# Altium integrated library Altera APEX 20KC.IntLib: 42 symbols (part 8 of 13)
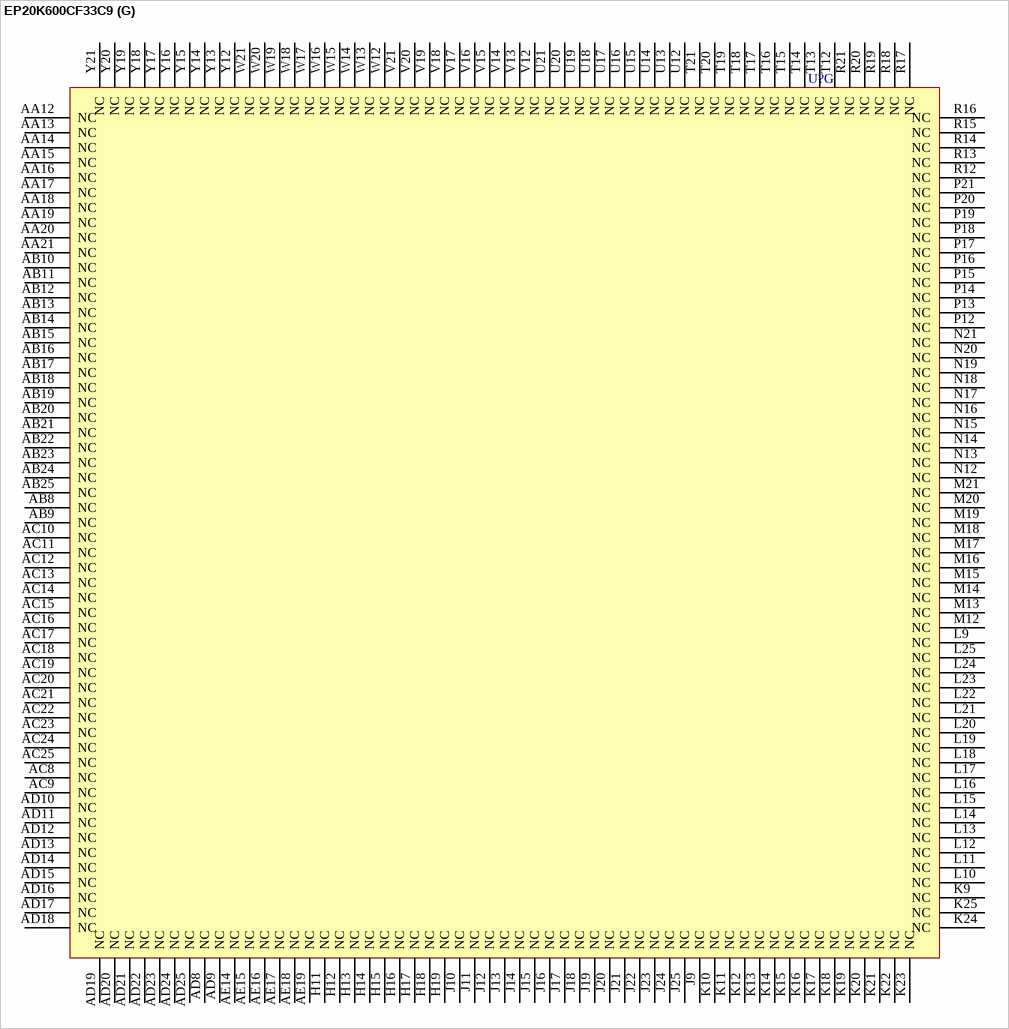
[diagram p98: symbol EP20K600CF33C9]

## EP20K600CF33C9
designator U?
APEX 20KC Family, 1.8V FPGA, 588 I/O Pins, 4 x PLLs, Commercial Grade, Speed Grade 9; Note: Pin compatible with Apex 20KE equivalent; Published: 23-Sep-2002; LatestRevisionDate: 13-Apr-2006; LatestRevisionNote: IPC-7351 Footprint Added.; DatasheetVersion: ver2.2, Feb-2004; PackageVersion: ver15.1, May-2008; PackageReference: FBGA1020; Publisher: Altium Limited; PackageDescription: 1020-Ball FineLine Ball Grid Array (FBGA1020) - Flip Chip; Code_JEDEC: MS-034-AAP-1; ComponentLink1Description: Manufacturer Link; ComponentLink1URL: http://www.altera.com/products/devices/apex/apx-index.html; ComponentLink2Description: Datasheet; ComponentLink2URL: http://www.altera.com/literature/ds/ds_apex20kc.pdf
footprint FBGA1020 (BGA, 1020-Leads, Body 33x33mm, Pitch 1mm)
3D model EP20K600C-FBGA1020 (1020-Ball FineLine Ball Grid Array (FBGA1020) - Flip Chip)
part A pins: A3 VCCIO1 (power), A5 IO/DATA5 (793) (io), A7 VCCIO1 (power), A8 IO/DATA3 (771) (io), A9 IO/DATA2 (756) (io), A10 IO/DATA1 (745) (io), A12 VCCIO1 (power), A13 IO/CLKUSR (734) (io), A14 IO/RDYnBSY (731) (io), A15 IO/INIT_DONE (727) (io), A21 VCCIO2 (power), A25 IO (658) (io), A26 VCCIO2 (power), A28 IO (644) (io), A30 VCCIO2 (power), B5 IO/DATA4 (782) (io), B7 VCCIO1 (power), B8 IO (784) (io), B9 IO (775) (io), B10 IO (766) (io), B12 VCCIO1 (power), B13 IO (748) (io), B14 IO (740) (io), B15 IO (732) (io), B18 IO (708) (io), B19 IO (701) (io), B20 IO (695) (io), B21 VCCIO2 (power), B23 IO (673) (io), B24 IO (666) (io), B25 IO (657) (io), B26 VCCIO2 (power), B28 IO (642) (io), C5 IO (1) (io), C8 IO (785) (io), C9 IO (776) (io), C10 IO (767) (io), C13 IO (749) (io), C14 IO (741) (io), C15 IO (733) (io), C16 IO (725) (io), C17 IO (713) (io), C18 IO (707) (io), C19 IO (700) (io), C20 IO (694) (io), C23 IO (672) (io), C24 IO (664) (io), C25 IO (656) (io), C28 IO (638) (io), C29 IO (641) (io), D5 IO (2) (io), D8 IO (786) (io), D9 IO (777) (io), D10 IO (768) (io), D13 IO (750) (io), D14 IO (742) (io), D15 IO (736) (io), D16 IO (726) (io), D17 IO (712) (io), D18 IO (706) (io), D19 IO (699) (io), D20 IO (693) (io), D23 IO (671) (io), D24 IO (663) (io), D25 IO (655) (io), D29 IO (636) (io), D30 IO (637) (io), E4 IO (5) (io), E5 IO (6) (io), E6 IO (7) (io), E7 IO (791) (io), E8 IO (787) (io), E9 IO (778) (io), E10 IO (769) (io), E11 IO (763) (io), E12 IO (754) (io), E13 IO (751) (io), E14 IO (743) (io), E15 IO (737) (io), E16 IO (728) (io), E17 IO (711) (io), E18 IO (705) (io), E19 IO (698) (io), E20 IO (691) (io), E21 IO (687) (io), E22 IO (683) (io), E23 IO (670) (io), E24 IO (662) (io), E25 IO (653) (io), E26 IO (649) (io), E27 IO (646) (io), F7 IO (792) (io), F8 IO (788) (io), F9 IO (779) (io), F10 IO (770) (io), F11 IO (764) (io), F12 IO (755) (io), F13 IO (752) (io), F14 IO (744) (io), F15 IO (738) (io), F16 IO (729) (io), F17 IO (710) (io), F18 IO (704) (io), F19 IO (697) (io), F20 IO (690) (io), F21 IO (686) (io), F22 IO (682) (io), F23 IO (669) (io), F24 IO (661) (io), F25 IO (652) (io), F26 IO (648) (io), F27 IO (645) (io), G8 IO (789) (io), G9 IO (780) (io), G10 IO (773) (io), G11 IO (765) (io), G12 IO (762) (io), G13 IO (753) (io), G14 IO (747) (io), G15 IO (739) (io), G16 IO (730) (io), G17 IO (709) (io), G18 IO (702) (io), G19 IO (696) (io), G20 IO (689) (io), G21 IO (685) (io), G22 IO (675) (io), G23 IO (668) (io), G24 IO (660) (io), G25 IO (651) (io), G26 IO (647) (io), H8 IO (790) (io), H9 IO (781) (io), H10 IO (774) (io), H20 IO (688) (io), H21 IO (684) (io), H22 IO (674) (io), H23 IO (667) (io), H24 IO (659) (io), H25 IO (650) (io)
part B pins: A29 IO/LVDSRXINCLK1n (534) (io), AA22 IO (441) (io), AA23 IO (442) (io), AA24 IO (443) (io), AA25 IO (445) (io), AA26 IO (446) (io), AA27 IO (447) (io), AA28 IO (448) (io), AA31 VCCIO4 (power), AA32 VCCIO4 (power), AB26 IO (436) (io), AB27 IO (439) (io), AB28 IO (440) (io), AC26 IO (432) (io), AC27 IO (433) (io), AC28 IO (434) (io), AC29 IO (435) (io), AC30 IO/LOCK1 (501) (io), AC31 IO/LVDSRX05n (553) (io), AC32 IO/LVDSRX05p (552) (io), AD26 IO (426) (io), AD27 IO (427) (io), AD28 IO (428) (io), AD29 IO (429) (io), AD30 IO (430) (io), AD31 IO/LVDSRX04p (549) (io), AD32 IO/LVDSRX04n (548) (io), AE26 IO (419) (io), AE27 IO (420) (io), AE28 IO (421) (io), AE29 IO (422) (io), AE30 IO (423) (io), AE31 IO/LVDSRX03n (546) (io), AE32 IO/LVDSRX03p (545) (io), AF27 IO (416) (io), AF28 IO (417) (io), AF31 VCCIO4 (power), AF32 VCCIO4 (power), AG27 IO (414) (io), AG28 IO (415) (io), AH28 IO (409) (io), AH29 IO (410) (io), AH30 IO (413) (io), AH31 IO/LVDSRX02p (543) (io), AH32 IO/LVDSRX02n (542) (io), AJ29 IO (407) (io), AJ30 IO (408) (io), AJ31 IO/LVDSRX01n (540) (io), AJ32 IO/LVDSRX01p (539) (io), AK32 VCCIO4 (power), AL28 CLKLK_FB1p (512) (in), AL29 IO/CLKLK_OUT1n (528) (io), AM28 IO/CLKLK_FB1n (511) (io), AM29 CLKLK_OUT1p (527) (out), B29 IO/LVDSRXINCLK1p (533) (io), C32 VCCIO3 (power), D28 IO (633) (io), D31 IO/LVDSRX16p (588) (io), D32 IO/LVDSRX16n (587) (io), E28 IO (630) (io), E29 IO (631) (io), E30 IO (632) (io), E31 IO/LVDSRX15n (585) (io), E32 IO/LVDSRX15p (584) (io), F28 IO (627) (io), G27 IO (625) (io), G28 IO (626) (io), G31 VCCIO3 (power), G32 VCCIO3 (power), H26 IO (620) (io), H27 IO (621) (io), H28 IO (623) (io), H29 IO (624) (io), H30 IO/LOCK3 (541) (io), H31 IO/LVDSRX14p (582) (io), H32 IO/LVDSRX14n (581) (io), J26 IO (614) (io), J27 IO (617) (io), J28 IO (618) (io), J29 IO (619) (io), J31 IO/LVDSRX13n (579) (io), J32 IO/LVDSRX13p (578) (io), K26 IO (610) (io), K27 IO (611) (io), K28 IO (612) (io), K29 IO (613) (io), K31 IO/LVDSRX12p (575) (io), K32 IO/LVDSRX12n (574) (io), L26 IO (606) (io), L27 IO (607) (io), L28 IO (608) (io), M22 IO (598) (io), M23 IO (599) (io), M25 IO (600) (io), M26 IO (601) (io), M27 IO (604) (io), M28 IO (605) (io), M31 VCCIO3 (power), M32 VCCIO3 (power), N22 IO (586) (io), N23 IO (591) (io), N25 IO (592) (io), N26 IO (593) (io), N27 IO (594) (io), N28 IO (595) (io), N29 IO (597) (io), N30 CLK1p (520) (in), N31 IO/LVDSRX11n (572) (io), N32 IO/LVDSRX11p (571) (io), P22 IO (547) (io), P25 IO (554) (io), P26 IO (560) (io), P27 IO (567) (io), P28 IO (573) (io), P29 IO (580) (io), P31 IO/LVDSRX10p (569) (io), P32 IO/LVDSRX10n (568) (io), R22 IO (498) (io), R23 IO (499) (io), R24 IO (500) (io), R25 IO (504) (io), R26 IO (505) (io), R27 IO (506) (io), R28 IO (535) (io), R29 IO (536) (io), R31 IO/LVDSRX09n (566) (io), R32 IO/LVDSRX09p (565) (io), T22 IO (488) (io), T23 IO (491) (io), T25 IO (492) (io), T26 IO (493) (io), T27 IO (494) (io), T28 IO (495) (io), T29 IO (497) (io), U22 IO (479) (io), U23 IO (480) (io), U24 IO (481) (io), U25 IO (482) (io), U26 IO (484) (io), U27 IO (485) (io), U28 IO (486) (io), U29 IO (487) (io), V22 IO (469) (io), V23 IO (471) (io), V25 IO (472) (io), V26 IO (473) (io), V27 IO (474) (io), V28 IO (475) (io), V29 IO (478) (io), V30 IO/CLK1n (515) (io), V31 IO/LVDSRX08p (562) (io), V32 IO/LVDSRX08n (561) (io), W22 IO (460) (io), W23 IO (461) (io), W25 IO (462) (io), W26 IO (465) (io), W27 IO (466) (io), W28 IO (467) (io), W29 IO (468) (io), W30 CLK3p (514) (in), W31 IO/LVDSRX07n (559) (io), W32 IO/LVDSRX07p (558) (io), Y22 IO (449) (io), Y23 IO (452) (io), Y24 IO (453) (io), Y25 IO (454) (io), Y26 IO (455) (io), Y27 IO (456) (io), Y28 IO (458) (io), Y29 IO (459) (io), Y30 IO/CLK3n (513) (io), Y31 IO/LVDSRX06p (556) (io), Y32 IO/LVDSRX06n (555) (io)
part C pins: AE8 IO (254) (io), AE9 IO (263) (io), AE10 IO (272) (io), AE11 IO (279) (io), AE12 IO (288) (io), AE13 IO (292) (io), AE20 IO (356) (io), AE21 IO (360) (io), AE22 IO (369) (io), AE23 IO (378) (io), AE24 IO (386) (io), AE25 IO (395) (io), AF6 IO (240) (io), AF7 IO (251) (io), AF8 IO (255) (io), AF9 IO (264) (io), AF10 IO (273) (io), AF11 IO (285) (io), AF12 IO (289) (io), AF13 IO (293) (io), AF14 IO (300) (io), AF15 IO (307) (io), AF16 IO (314) (io), AF17 IO (335) (io), AF18 IO (342) (io), AF19 IO (348) (io), AF20 IO (355) (io), AF21 IO (359) (io), AF22 IO (368) (io), AF23 IO (377) (io), AF24 IO (385) (io), AF25 IO (394) (io), AF26 IO (399) (io), AG5 IO (241) (io), AG6 IO (242) (io), AG7 IO (252) (io), AG8 IO (256) (io), AG9 IO (265) (io), AG10 IO (274) (io), AG11 IO (286) (io), AG12 IO (290) (io), AG13 IO (294) (io), AG14 IO (301) (io), AG15 IO (308) (io), AG16 IO (315) (io), AG17 IO (334) (io), AG18 IO (341) (io), AG19 IO (347) (io), AG20 IO (354) (io), AG21 IO (358) (io), AG22 IO (367) (io), AG23 IO (375) (io), AG24 IO (384) (io), AG25 IO (393) (io), AG26 IO (397) (io), AH4 IO (245) (io), AH5 IO (246) (io), AH6 IO (250) (io), AH7 IO (253) (io), AH8 IO (257) (io), AH9 IO (266) (io), AH10 IO (275) (io), AH11 IO (287) (io), AH12 IO (291) (io), AH13 IO (296) (io), AH14 IO (302) (io), AH15 IO (309) (io), AH16 IO (316) (io), AH17 IO (333) (io), AH18 IO (340) (io), AH19 IO (346) (io), AH20 IO (353) (io), AH21 IO (357) (io), AH22 IO (366) (io), AH23 IO (374) (io), AH24 IO (383) (io), AH25 IO (392) (io), AH26 IO (396) (io), AH27 IO (400) (io), AJ4 IO (248) (io), AJ5 IO (249) (io), AJ8 IO (259) (io), AJ9 IO (267) (io), AJ10 IO (276) (io), AJ13 IO (297) (io), AJ14 IO (303) (io), AJ15 IO (310) (io), AJ16 IO (329) (io), AJ17 IO (332) (io), AJ18 IO (338) (io), AJ19 IO (345) (io), AJ20 IO (352) (io), AJ23 IO (373) (io), AJ24 IO (382) (io), AJ25 IO (391) (io), AJ28 IO (405) (io), AK8 IO (260) (io), AK9 IO (268) (io), AK10 IO (277) (io), AK13 IO (298) (io), AK14 IO (304) (io), AK15 IO (311) (io), AK16 IO (330) (io), AK17 IO (331) (io), AK18 IO (337) (io), AK19 IO (344) (io), AK20 IO (351) (io), AK23 IO (372) (io), AK24 IO (381) (io), AK25 IO (390) (io), AK28 IO (403) (io), AK29 IO (404) (io), AL7 VCCIO6 (power), AL8 IO (261) (io), AL9 IO (270) (io), AL10 IO (278) (io), AL12 VCCIO6 (power), AL13 IO (299) (io), AL14 IO (305) (io), AL15 IO (312) (io), AL18 IO (336) (io), AL19 IO (343) (io), AL20 IO (349) (io), AL21 VCCIO5 (power), AL23 IO (371) (io), AL24 IO (380) (io), AL25 IO (389) (io), AL26 VCCIO5 (power), AM3 VCCIO6 (power), AM7 VCCIO6 (power), AM8 IO (262) (io), AM9 IO (271) (io), AM10 IO/LVDSDESKEW (313) (io), AM12 VCCIO6 (power), AM21 VCCIO5 (power), AM23 IO (370) (io), AM24 IO (379) (io), AM25 IO (388) (io), AM26 VCCIO5 (power), AM30 VCCIO5 (power)
part D pins: A4 IO/DATA6 (76) (io), AA1 VCCIO7 (power), AA2 VCCIO7 (power), AA5 IO (211) (io), AA6 IO (212) (io), AA7 IO (213) (io), AA8 IO (215) (io), AA10 IO (216) (io), AA11 IO (217) (io), AB5 IO (218) (io), AB6 IO (219) (io), AB7 IO (222) (io), AC1 IO/LVDSTX12n (179) (io), AC2 IO/LVDSTX12p (180) (io), AC4 IO (223) (io), AC5 IO (224) (io), AC6 IO (225) (io), AC7 IO (226) (io), AD1 IO/LVDSTX13p (183) (io), AD2 IO/LVDSTX13n (184) (io), AD4 IO (228) (io), AD5 IO (229) (io), AD6 IO (230) (io), AD7 IO (231) (io), AE1 IO/LVDSTX14n (186) (io), AE2 IO/LVDSTX14p (187) (io), AE3 IO/DEV_OE (131) (io), AE4 IO (232) (io), AE5 IO (235) (io), AE6 IO (236) (io), AE7 IO (237) (io), AF1 VCCIO7 (power), AF2 VCCIO7 (power), AF5 IO (238) (io), AH1 IO/LVDSTX15p (189) (io), AH2 IO/LVDSTX15n (190) (io), AH3 CLKLK_OUT2p (134) (out), AJ1 IO/LVDSTX16n (192) (io), AJ2 IO/LVDSTX16p (193) (io), AJ3 IO/CLKLK_OUT2n (135) (io), AK1 VCCIO7 (power), AK4 IO/LOCK2 (139) (io), AK5 IO/LOCK4 (159) (io), AL4 IO/LVDSTXOUTCLK1p (141) (io), AL5 IO/LVDSTXINCLK1n (138) (io), AM4 IO/LVDSTXOUTCLK1n (140) (io), AM5 IO/LVDSTXINCLK1p (137) (io), B4 IO/DATA7 (83) (io), C1 VCCIO8 (power), C4 IO/nWS (89) (io), D1 IO/LVDSTX01p (144) (io), D2 IO/LVDSTX01n (145) (io), D3 IO/nCS (102) (io), D4 IO/nRS (96) (io), E1 IO/LVDSTX02n (147) (io), E2 IO/LVDSTX02p (148) (io), E3 IO/CS (110) (io), F5 IO (10) (io), F6 IO (11) (io), G1 VCCIO8 (power), G2 VCCIO8 (power), G5 IO (12) (io), G6 IO (13) (io), G7 IO (16) (io), H1 IO/LVDSTX03p (150) (io), H2 IO/LVDSTX03n (151) (io), H3 IO/DEV_CLRn (112) (io), H4 IO (17) (io), H5 IO (18) (io), H6 IO (19) (io), H7 IO (20) (io), J1 IO/LVDSTX04n (153) (io), J2 IO/LVDSTX04p (154) (io), J3 IO/CLKLK_FB2n (114) (io), J4 IO (22) (io), J5 IO (23) (io), J6 IO (24) (io), J7 IO (25) (io), J8 IO (26) (io), K1 IO/LVDSTX05p (157) (io), K2 IO/LVDSTX05n (158) (io), K3 CLKLK_FB2p (115) (in), K4 IO (29) (io), K5 IO (30) (io), K6 IO (31) (io), K7 IO (32) (io), K8 IO (33) (io), L5 IO (35) (io), L6 IO (36) (io), L7 IO (37) (io), L8 IO (38) (io), M1 VCCIO8 (power), M2 VCCIO8 (power), M5 IO (39) (io), M6 IO (42) (io), M7 IO (43) (io), M8 IO (44) (io), M9 IO (45) (io), M10 IO (46) (io), M11 IO (48) (io), N1 IO/LVDSTX06n (160) (io), N2 IO/LVDSTX06p (161) (io), N3 IO/CLK4n (116) (io), N4 IO (49) (io), N5 IO (50) (io), N6 IO (51) (io), N7 IO (52) (io), N8 IO (55) (io), N9 IO (56) (io), N10 IO (57) (io), N11 IO (58) (io), P1 IO/LVDSTX07p (163) (io), P2 IO/LVDSTX07n (164) (io), P3 CLK4p (117) (in), P4 IO (59) (io), P5 IO (61) (io), P6 IO (62) (io), P7 IO (63) (io), P8 IO (64) (io), P10 IO (65) (io), P11 IO (68) (io), R1 IO/LVDSTX08n (166) (io), R2 IO/LVDSTX08p (167) (io), R3 IO/CLK2n (118) (io), R4 IO (69) (io), R5 IO (70) (io), R6 IO (71) (io), R7 IO (72) (io), R8 IO (74) (io), R9 IO (77) (io), R10 IO (75) (io), R11 IO (78) (io), T4 IO (81) (io), T5 IO (82) (io), T6 IO (84) (io), T7 IO (85) (io), T8 IO (87) (io), T10 IO (88) (io), T11 IO (90) (io), U4 IO (91) (io), U5 IO (94) (io), U6 IO (95) (io), U7 IO (97) (io), U8 IO (98) (io), U9 IO (100) (io), U10 IO (101) (io), U11 IO (103) (io), V1 IO/LVDSTX09p (170) (io), V2 IO/LVDSTX09n (171) (io), V4 IO (104) (io), V5 IO (111) (io), V6 IO (146) (io), V7 IO (152) (io), V8 IO (165) (io), V10 IO (172) (io), V11 IO (178) (io), W1 IO/LVDSTX10n (173) (io), W2 IO/LVDSTX10p (174) (io), W4 IO (185) (io), W5 IO (191) (io), W6 IO (196) (io), W7 IO (197) (io), W8 IO (198) (io), W10 IO (199) (io), W11 IO (200) (io), Y1 IO/LVDSTX11p (176) (io), Y2 IO/LVDSTX11n (177) (io), Y3 CLK2p (123) (in), Y4 IO (202) (io), Y5 IO (203) (io), Y6 IO (204) (io), Y7 IO (205) (io), Y8 IO (206) (io), Y10 IO (209) (io), Y11 IO (210) (io)
part E pins: A18 TDO (723) (out), A19 FAST2 (722) (io), A20 FAST1 (716) (io), A23 nCEO (715) (out), A24 TRST (714) (in), AC3 nCE (124) (in), AD3 TDI (125) (in), AM13 CONF_DONE (318) (io), AM14 nSTATUS (319) (io), AM15 FAST4 (320) (io), AM18 FAST3 (326) (io), AM19 TCK (327) (in), AM20 TMS (328) (in), J30 MSEL0 (522) (in), K30 MSEL1 (521) (in), P30 CLKLK_ENA (519) (in), R30 nCONFIG (518) (in), V3 DATA0 (121) (in), W3 DCLK (122) (in)
part F pins: A2 VCCINT (power), A6 VCCINT (power), A11 VCCINT (power), A16 VCCINT (power), A17 GND (power), A22 VCCINT (power), A27 VCCINT (power), A31 VCCINT (power), AA3 GND (power), AA4 GND (power), AA9 VCC_CKOUT2 (132) (power), AA29 GND (power), AA30 GND (power), AB1 VCCINT (power), AB2 VCCINT (power), AB3 GND (power), AB4 GND (power), AB29 GND (power), AB30 GND (power), AB31 VCCINT (power), AB32 VCCINT (power), AF3 GND (power), AF4 GND (power), AF29 GND (power), AF30 GND (power), AG1 VCCINT (power), AG2 VCCINT (power), AG3 GND (power), AG4 GND (power), AG29 GND (power), AG30 GND (power), AG31 VCCINT (power), AG32 VCCINT (power), AJ6 GND (power), AJ7 GND (power), AJ11 GND (power), AJ12 GND (power), AJ21 GND (power), AJ22 GND (power), AJ26 GND (power), AJ27 GND (power), AK2 GND (power), AK3 GND (power), AK6 GND (power), AK7 GND (power), AK11 GND (power), AK12 GND (power), AK21 GND (power), AK22 GND (power), AK26 GND (power), AK27 GND (power), AK30 GND (power), AK31 GND (power), AL1 VCCINT (power), AL2 GND (power), AL3 GND (power), AL6 VCCINT (power), AL11 VCCINT (power), AL16 GND (power), AL17 VCCINT (power), AL22 VCCINT (power), AL27 VCCINT (power), AL30 GND (power), AL31 GND (power), AL32 VCCINT (power), AM2 VCCINT (power), AM6 VCCINT (power), AM11 VCCINT (power), AM16 GND (power), AM17 VCCINT (power), AM22 VCCINT (power), AM27 VCCINT (power), AM31 VCCINT (power), B1 VCCINT (power), B2 GND (power), B3 GND (power), B6 VCCINT (power), B11 VCCINT (power), B16 VCCINT (power), B17 GND (power), B22 VCCINT (power), B27 VCCINT (power), B30 GND (power), B31 GND (power), B32 VCCINT (power), C2 GND (power), C3 GND (power), C6 GND (power), C7 GND (power), C11 GND (power), C12 GND (power), C21 GND (power), C22 GND (power), C26 GND (power), C27 GND (power), C30 GND (power), C31 GND (power), D6 GND (power), D7 GND (power), D11 GND (power), D12 GND (power), D21 GND (power), D22 GND (power), D26 GND (power), D27 GND (power), F1 VCCINT (power), F2 VCCINT (power), F3 GND (power), F4 GND (power), F29 GND (power), F30 GND (power), F31 VCCINT (power), F32 VCCINT (power), G3 GND (power), G4 GND (power), G29 GND (power), G30 GND (power), L1 VCCINT (power), L2 VCCINT (power), L3 GND (power), L4 GND (power), L29 GND (power), L30 GND (power), L31 VCCINT (power), L32 VCCINT (power), M3 GND (power), M4 GND (power), M24 VCC_CKLK3 (529) (power), M29 GND (power), M30 GND (power), N24 VCC_CKOUT1 (525) (power), P9 VCC_CKLK4 (107) (power), P23 GND_CKLK3 (531) (power), P24 GND_CKLK3 (532) (power), T1 GND (power), T2 GND (power), T3 GND (power), T9 GND_CKLK4 (108/109) (power), T24 GND_CKOUT1 (526) (power), T30 VCCINT (power), T31 VCCINT (power), T32 VCCINT (power), U1 VCCINT (power), U2 VCCINT (power), U3 VCCINT (power), U30 GND (power), U31 GND (power), U32 GND (power), V9 GND_CKLK2 (126/127) (power), V24 GND_CKLK1 (508/509) (power), W9 GND_CKOUT2 (133) (power), W24 VCC_CKLK1 (507) (power), Y9 VCC_CKLK2 (130) (power)
part G pins: AA12 NC, AA13 NC, AA14 NC, AA15 NC, AA16 NC, AA17 NC, AA18 NC, AA19 NC, AA20 NC, AA21 NC, AB8 NC, AB9 NC, AB10 NC, AB11 NC, AB12 NC, AB13 NC, AB14 NC, AB15 NC, AB16 NC, AB17 NC, AB18 NC, AB19 NC, AB20 NC, AB21 NC, AB22 NC, AB23 NC, AB24 NC, AB25 NC, AC8 NC, AC9 NC, AC10 NC, AC11 NC, AC12 NC, AC13 NC, AC14 NC, AC15 NC, AC16 NC, AC17 NC, AC18 NC, AC19 NC, AC20 NC, AC21 NC, AC22 NC, AC23 NC, AC24 NC, AC25 NC, AD8 NC, AD9 NC, AD10 NC, AD11 NC, AD12 NC, AD13 NC, AD14 NC, AD15 NC, AD16 NC, AD17 NC, AD18 NC, AD19 NC, AD20 NC, AD21 NC, AD22 NC, AD23 NC, AD24 NC, AD25 NC, AE14 NC, AE15 NC, AE16 NC, AE17 NC, AE18 NC, AE19 NC, H11 NC, H12 NC, H13 NC, H14 NC, H15 NC, H16 NC, H17 NC, H18 NC, H19 NC, J9 NC, J10 NC, J11 NC, J12 NC, J13 NC, J14 NC, J15 NC, J16 NC, J17 NC, J18 NC, J19 NC, J20 NC, J21 NC, J22 NC, J23 NC, J24 NC, J25 NC, K9 NC, K10 NC, K11 NC, K12 NC, K13 NC, K14 NC, K15 NC, K16 NC, K17 NC, K18 NC, K19 NC, K20 NC, K21 NC, K22 NC, K23 NC, K24 NC, K25 NC, L9 NC, L10 NC, L11 NC, L12 NC, L13 NC, L14 NC, L15 NC, L16 NC, L17 NC, L18 NC, L19 NC, L20 NC, L21 NC, L22 NC, L23 NC, L24 NC, L25 NC, M12 NC, M13 NC, M14 NC, M15 NC, M16 NC, M17 NC, M18 NC, M19 NC, M20 NC, M21 NC, N12 NC, N13 NC, N14 NC, N15 NC, N16 NC, N17 NC, N18 NC, N19 NC, N20 NC, N21 NC, P12 NC, P13 NC, P14 NC, P15 NC, P16 NC, P17 NC, P18 NC, P19 NC, P20 NC, P21 NC, R12 NC, R13 NC, R14 NC, R15 NC, R16 NC, R17 NC, R18 NC, R19 NC, R20 NC, R21 NC, T12 NC, T13 NC, T14 NC, T15 NC, T16 NC, T17 NC, T18 NC, T19 NC, T20 NC, T21 NC, U12 NC, U13 NC, U14 NC, U15 NC, U16 NC, U17 NC, U18 NC, U19 NC, U20 NC, U21 NC, V12 NC, V13 NC, V14 NC, V15 NC, V16 NC, V17 NC, V18 NC, V19 NC, V20 NC, V21 NC, W12 NC, W13 NC, W14 NC, W15 NC, W16 NC, W17 NC, W18 NC, W19 NC, W20 NC, W21 NC, Y12 NC, Y13 NC, Y14 NC, Y15 NC, Y16 NC, Y17 NC, Y18 NC, Y19 NC, Y20 NC, Y21 NC
part A text: BANK 1; BANK 2
part B text: BANK 3; BANK 4
part C text: BANK 5; BANK 6
part D text: BANK 7; BANK 8

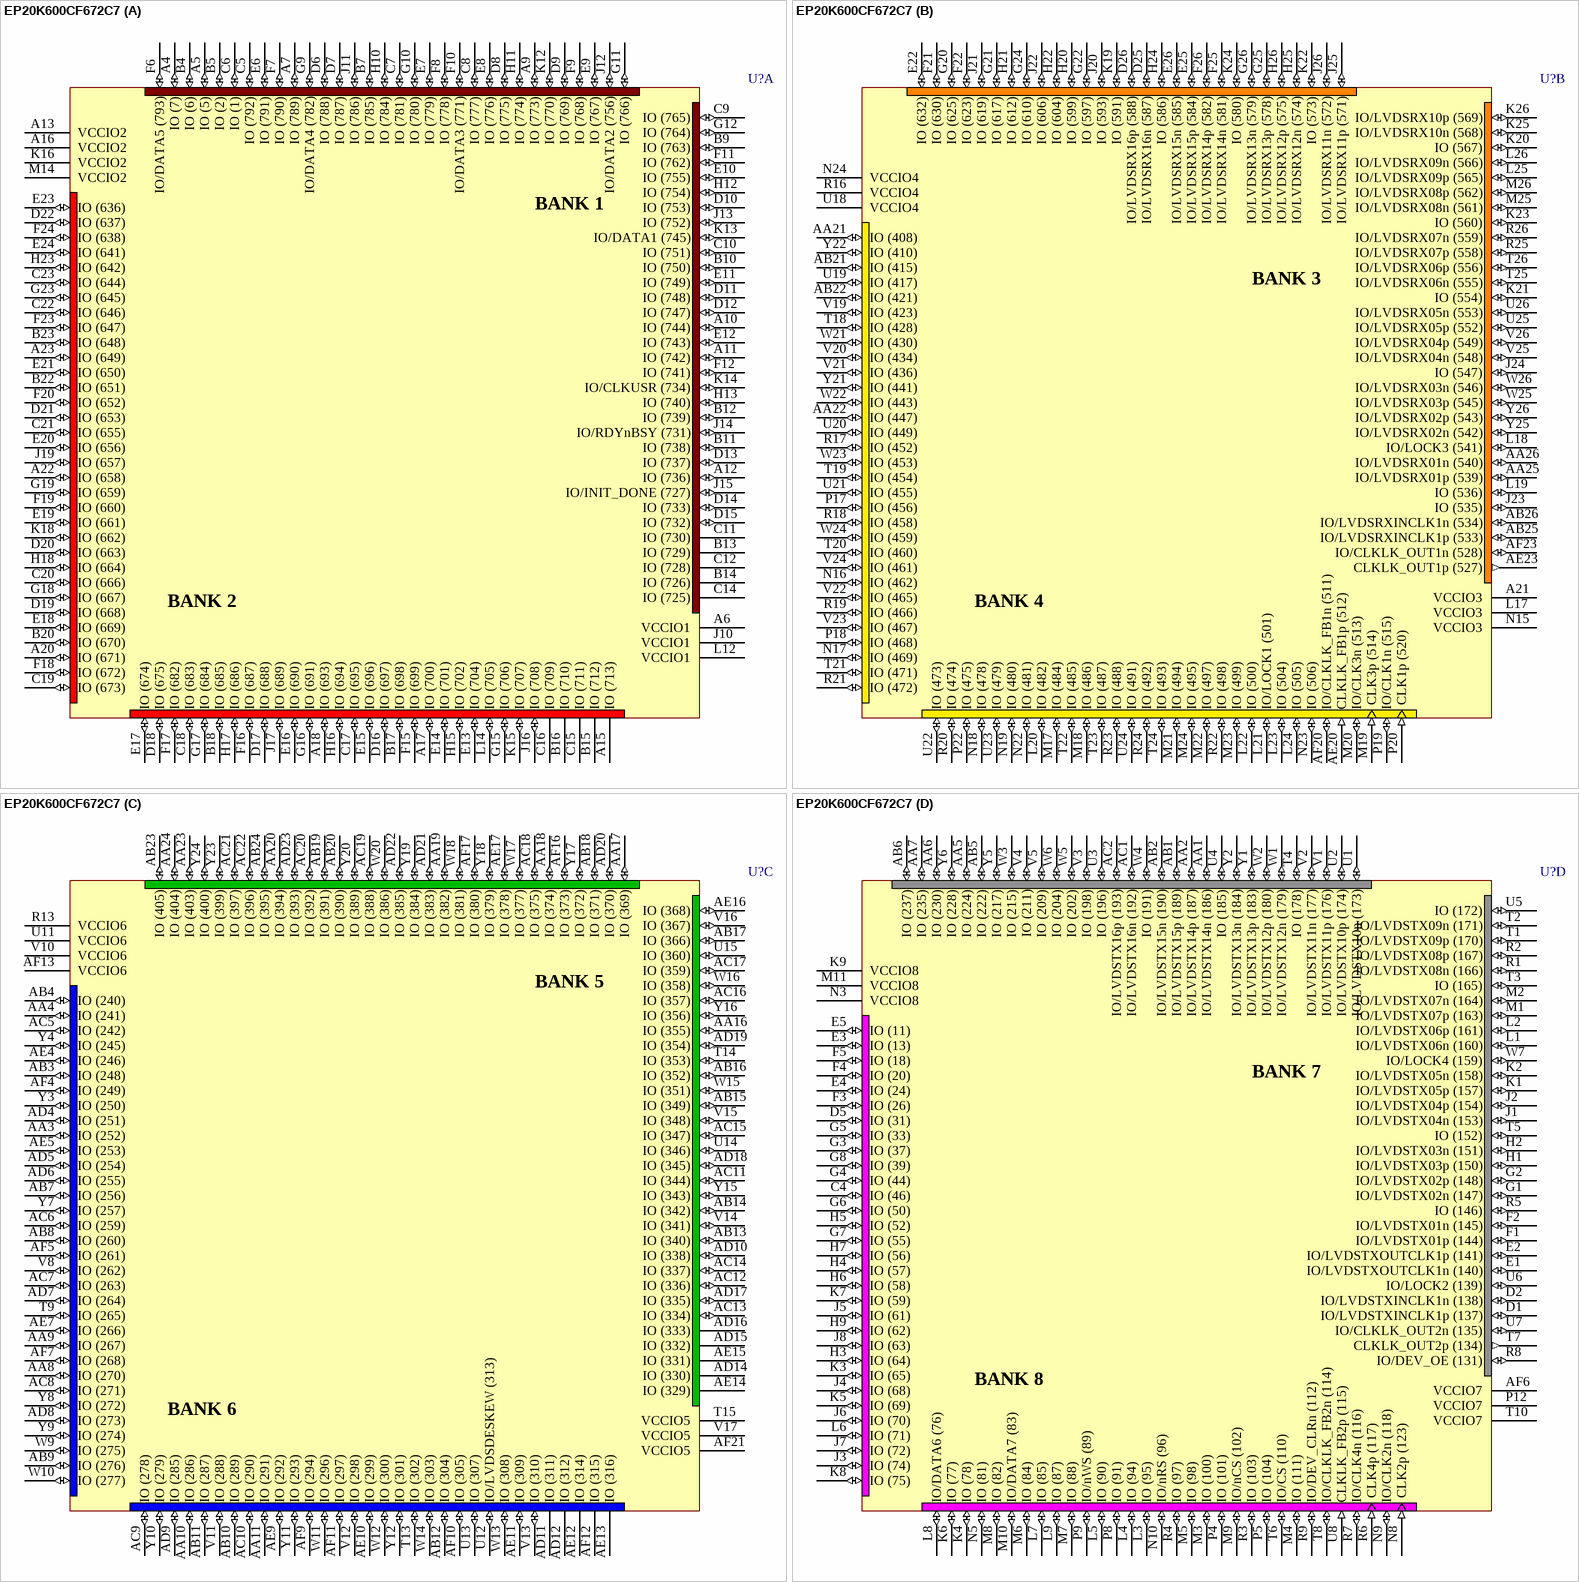
[diagram p62: symbol EP20K600CF672C7]

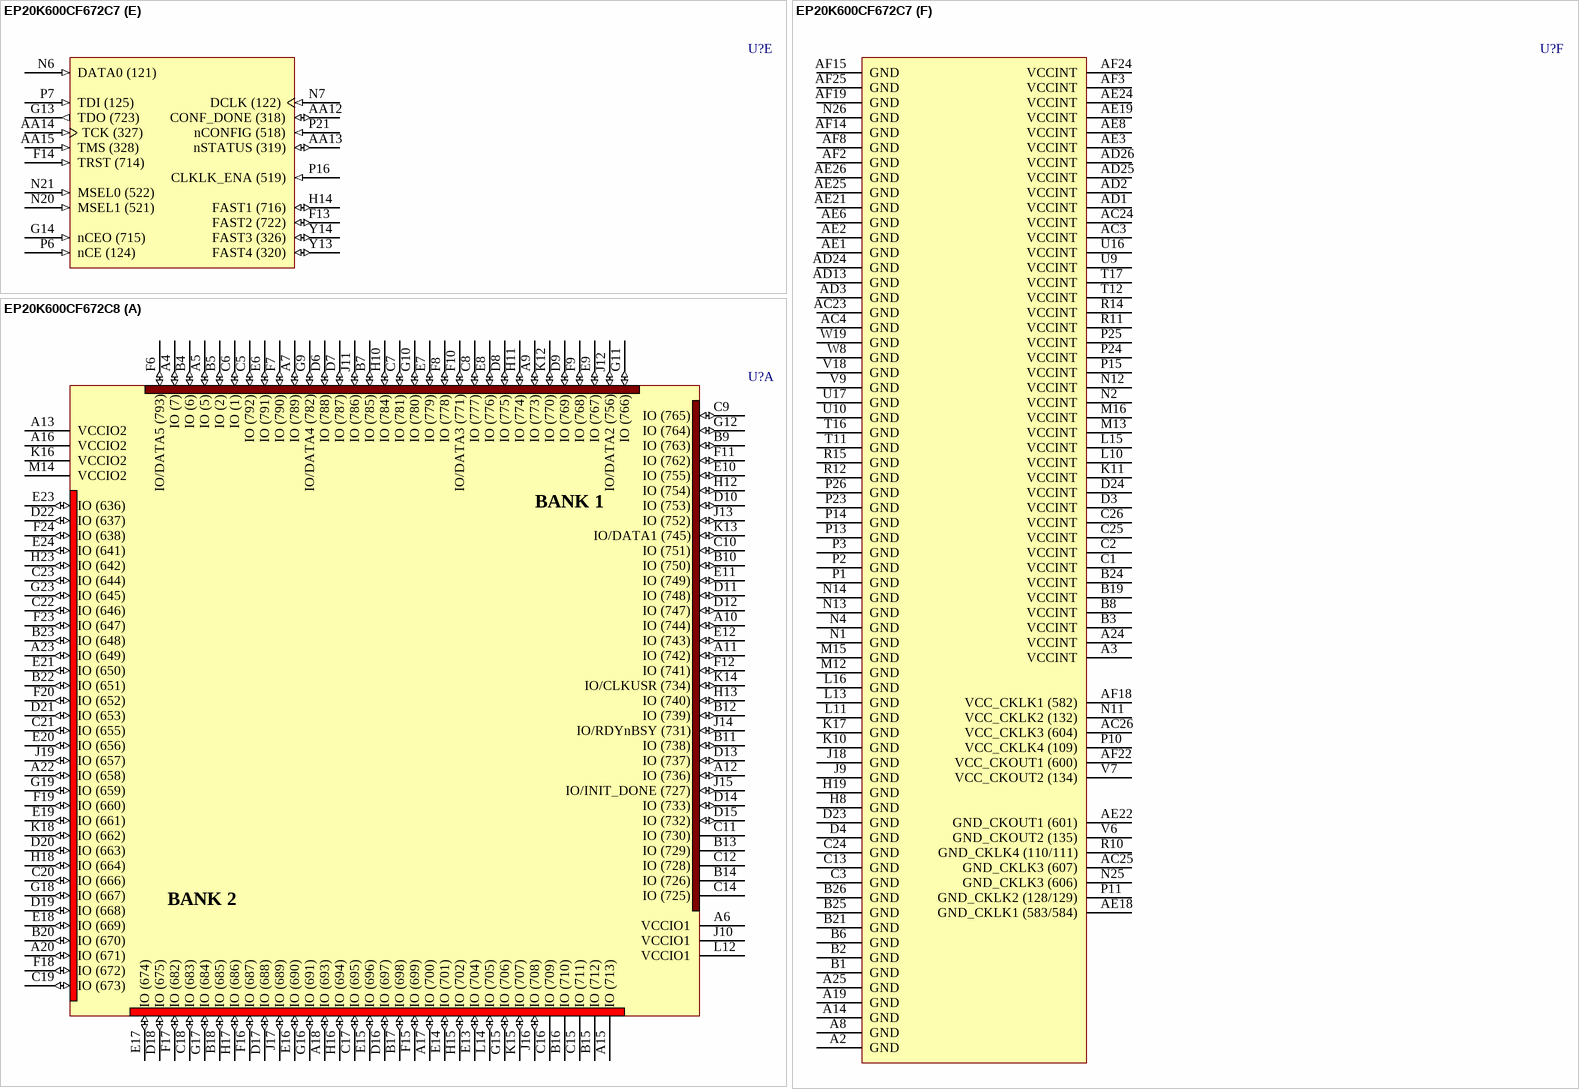
[diagram p63: symbols EP20K600CF672C7 to EP20K600CF672C8]

## EP20K600CF672C7
designator U?
APEX 20KC Family, 1.8V FPGA, 508 I/O Pins, 4 x PLLs, Commercial Grade, Speed Grade 7; Note: Pin compatible with Apex 20KE equivalent; Published: 23-Sep-2002; LatestRevisionDate: 13-Apr-2006; LatestRevisionNote: IPC-7351 Footprint Added.; DatasheetVersion: ver2.2, Feb-2004; PackageVersion: ver15.4, Dec-2008; PackageReference: FBGA672; Publisher: Altium Limited; PackageDescription: 672-Ball FineLine Ball Grid Array (FBGA672) - Flip Chip; Code_JEDEC: MS-034-AAL-1; ComponentLink1Description: Manufacturer Link; ComponentLink1URL: http://www.altera.com/products/devices/apex/apx-index.html; ComponentLink2Description: Datasheet; ComponentLink2URL: http://www.altera.com/literature/ds/ds_apex20kc.pdf
footprint FBGA672 (BGA, 672-Leads, Body 27x27mm, Pitch 1mm)
3D model EP20K600C-FBGA672T (672-Ball FineLine Ball Grid Array (FBGA672) - Flip Chip)
part A pins: A4 IO (7) (io), A5 IO (5) (io), A6 VCCIO1 (power), A7 IO (789) (io), A9 IO (773) (io), A10 IO (744) (io), A11 IO (742) (io), A12 IO (736) (io), A13 VCCIO2 (power), A15 IO (713), A16 VCCIO2, A17 IO (700) (io), A18 IO (693) (io), A20 IO (671) (io), A22 IO (658) (io), A23 IO (649) (io), B4 IO (6) (io), B5 IO (2) (io), B7 IO (785) (io), B9 IO (763) (io), B10 IO (750) (io), B11 IO (738) (io), B12 IO (739) (io), B13 IO (729), B14 IO (726), B15 IO (712), B16 IO (710), B17 IO (698) (io), B18 IO (685) (io), B20 IO (670) (io), B22 IO (651) (io), B23 IO (648) (io), C5 IO (792) (io), C6 IO (1) (io), C7 IO (781) (io), C8 IO (777) (io), C9 IO (765) (io), C10 IO (751) (io), C11 IO (730), C12 IO (728), C14 IO (725), C15 IO (711), C16 IO (709), C17 IO (695) (io), C18 IO (683) (io), C19 IO (673) (io), C20 IO (666) (io), C21 IO (655) (io), C22 IO (646) (io), C23 IO (644) (io), D6 IO (788) (io), D7 IO (787) (io), D8 IO (775) (io), D9 IO (769) (io), D10 IO (753) (io), D11 IO (748) (io), D12 IO (747) (io), D13 IO (737) (io), D14 IO (733) (io), D15 IO (732) (io), D16 IO (697) (io), D17 IO (688) (io), D18 IO (675) (io), D19 IO (668) (io), D20 IO (663) (io), D21 IO (653) (io), D22 IO (637) (io), E6 IO (791) (io), E7 IO (779) (io), E8 IO (776) (io), E9 IO (767) (io), E10 IO (755) (io), E11 IO (749) (io), E12 IO (743) (io), E13 IO (704) (io), E14 IO (701) (io), E15 IO (696) (io), E16 IO (690) (io), E17 IO (674) (io), E18 IO (669) (io), E19 IO (661) (io), E20 IO (656) (io), E21 IO (650) (io), E23 IO (636) (io), E24 IO (641) (io), F6 IO/DATA5 (793) (io), F7 IO (790) (io), F8 IO (778) (io), F9 IO (768) (io), F10 IO/DATA3 (771) (io), F11 IO (762) (io), F12 IO (741) (io), F15 IO (699) (io), F16 IO (687) (io), F17 IO (682) (io), F18 IO (672) (io), F19 IO (660) (io), F20 IO (652) (io), F23 IO (647) (io), F24 IO (638) (io), G9 IO/DATA4 (782) (io), G10 IO (780) (io), G11 IO (766) (io), G12 IO (764) (io), G15 IO (706) (io), G16 IO (691) (io), G17 IO (684) (io), G18 IO (667) (io), G19 IO (659) (io), G23 IO (645) (io), H10 IO (784) (io), H11 IO (774) (io), H12 IO (754) (io), H13 IO (740) (io), H15 IO (702) (io), H16 IO (694) (io), H17 IO (686) (io), H18 IO (664) (io), H23 IO (642) (io), J10 VCCIO1 (power), J11 IO (786) (io), J12 IO/DATA2 (756) (io), J13 IO (752) (io), J14 IO/RDYnBSY (731) (io), J15 IO/INIT_DONE (727) (io), J16 IO (708) (io), J17 IO (689) (io), J19 IO (657) (io), K12 IO (770) (io), K13 IO/DATA1 (745) (io), K14 IO/CLKUSR (734) (io), K15 IO (707) (io), K16 VCCIO2 (power), K18 IO (662) (io), L12 VCCIO1 (power), L14 IO (705) (io), M14 VCCIO2 (power)
part B pins: A21 VCCIO3 (power), AA21 IO (408) (io), AA22 IO (447) (io), AA25 IO/LVDSRX01p (539) (io), AA26 IO/LVDSRX01n (540) (io), AB21 IO (415) (io), AB22 IO (421) (io), AB25 IO/LVDSRXINCLK1p (533) (io), AB26 IO/LVDSRXINCLK1n (534) (io), AE20 CLKLK_FB1p (512) (in), AE23 CLKLK_OUT1p (527) (out), AF20 IO/CLKLK_FB1n (511) (io), AF23 IO/CLKLK_OUT1n (528) (io), D25 IO/LVDSRX16n (587) (io), D26 IO/LVDSRX16p (588) (io), E22 IO (632) (io), E25 IO/LVDSRX15p (584) (io), E26 IO/LVDSRX15n (585) (io), F21 IO (630) (io), F22 IO (623) (io), F25 IO/LVDSRX14n (581) (io), F26 IO/LVDSRX14p (582) (io), G20 IO (625) (io), G21 IO (617) (io), G22 IO (597) (io), G24 IO (610) (io), G25 IO/LVDSRX13p (578) (io), G26 IO/LVDSRX13n (579) (io), H20 IO (599) (io), H21 IO (612) (io), H22 IO (604) (io), H24 IO (586) (io), H25 IO/LVDSRX12n (574) (io), H26 IO/LVDSRX12p (575) (io), J20 IO (593) (io), J21 IO (619) (io), J22 IO (606) (io), J23 IO (535) (io), J24 IO (547) (io), J25 IO/LVDSRX11p (571) (io), J26 IO/LVDSRX11n (572) (io), K19 IO (591) (io), K20 IO (567) (io), K21 IO (554) (io), K22 IO (573) (io), K23 IO (560) (io), K24 IO (580) (io), K25 IO/LVDSRX10n (568) (io), K26 IO/LVDSRX10p (569) (io), L17 VCCIO3 (power), L18 IO/LOCK3 (541) (io), L19 IO (536) (io), L20 IO (482) (io), L21 IO/LOCK1 (501) (io), L22 IO (500) (io), L23 IO (504) (io), L24 IO (505) (io), L25 IO/LVDSRX09p (565) (io), L26 IO/LVDSRX09n (566) (io), M17 IO (484) (io), M18 IO (486) (io), M19 CLK3p (514) (in), M20 IO/CLK3n (513) (io), M21 IO (494) (io), M22 IO (497) (io), M23 IO (499) (io), M24 IO (495) (io), M25 IO/LVDSRX08n (561) (io), M26 IO/LVDSRX08p (562) (io), N15 VCCIO3 (power), N16 IO (462) (io), N17 IO (469) (io), N18 IO (478) (io), N19 IO (480) (io), N22 IO (481) (io), N23 IO (506) (io), N24 VCCIO4 (power), P17 IO (456) (io), P18 IO (468) (io), P19 IO/CLK1n (515) (io), P20 CLK1p (520) (in), P22 IO (475) (io), R16 VCCIO4 (power), R17 IO (452) (io), R18 IO (458) (io), R19 IO (466) (io), R20 IO (474) (io), R21 IO (472) (io), R22 IO (498) (io), R23 IO (488) (io), R24 IO (492) (io), R25 IO/LVDSRX07p (558) (io), R26 IO/LVDSRX07n (559) (io), T18 IO (428) (io), T19 IO (454) (io), T20 IO (460) (io), T21 IO (471) (io), T22 IO (485) (io), T23 IO (487) (io), T24 IO (493) (io), T25 IO/LVDSRX06n (555) (io), T26 IO/LVDSRX06p (556) (io), U18 VCCIO4 (power), U19 IO (417) (io), U20 IO (449) (io), U21 IO (455) (io), U22 IO (473) (io), U23 IO (479) (io), U24 IO (491) (io), U25 IO/LVDSRX05p (552) (io), U26 IO/LVDSRX05n (553) (io), V19 IO (423) (io), V20 IO (434) (io), V21 IO (436) (io), V22 IO (465) (io), V23 IO (467) (io), V24 IO (461) (io), V25 IO/LVDSRX04n (548) (io), V26 IO/LVDSRX04p (549) (io), W21 IO (430) (io), W22 IO (443) (io), W23 IO (453) (io), W24 IO (459) (io), W25 IO/LVDSRX03p (545) (io), W26 IO/LVDSRX03n (546) (io), Y21 IO (441) (io), Y22 IO (410) (io), Y25 IO/LVDSRX02n (542) (io), Y26 IO/LVDSRX02p (543) (io)
part C pins: AA3 IO (252) (io), AA4 IO (241) (io), AA8 IO (270) (io), AA9 IO (267) (io), AA10 IO (286) (io), AA11 IO (291) (io), AA16 IO (355) (io), AA17 IO (369) (io), AA18 IO (374) (io), AA19 IO (382) (io), AA20 IO (394) (io), AA23 IO (403) (io), AA24 IO (404) (io), AB3 IO (248) (io), AB4 IO (240) (io), AB7 IO (256) (io), AB8 IO (260) (io), AB9 IO (276) (io), AB10 IO (289) (io), AB11 IO (287) (io), AB12 IO (304) (io), AB13 IO (340) (io), AB14 IO (342) (io), AB15 IO (349) (io), AB16 IO (352) (io), AB17 IO (366) (io), AB18 IO (371) (io), AB19 IO (391) (io), AB20 IO (390) (io), AB23 IO (405) (io), AB24 IO (395) (io), AC5 IO (242) (io), AC6 IO (259) (io), AC7 IO (263) (io), AC8 IO (271) (io), AC9 IO (278) (io), AC10 IO (290) (io), AC11 IO (344) (io), AC12 IO (336) (io), AC13 IO (334) (io), AC14 IO (337) (io), AC15 IO (347) (io), AC16 IO (357) (io), AC17 IO (359) (io), AC18 IO (375) (io), AC19 IO (388) (io), AC20 IO (392) (io), AC21 IO (397) (io), AC22 IO (396) (io), AD4 IO (251) (io), AD5 IO (254) (io), AD6 IO (255) (io), AD7 IO (264) (io), AD8 IO (273) (io), AD9 IO (285) (io), AD10 IO (338) (io), AD11 IO (311), AD12 IO (312), AD14 IO (330), AD15 IO (332), AD16 IO (333), AD17 IO (335) (io), AD18 IO (345) (io), AD19 IO (354) (io), AD20 IO (370) (io), AD21 IO (383) (io), AD22 IO (385) (io), AD23 IO (393) (io), AE4 IO (246) (io), AE5 IO (253) (io), AE7 IO (266) (io), AE9 IO (292) (io), AE10 IO (299) (io), AE11 IO (309) (io), AE12 IO (314), AE13 IO (316), AE14 IO (329), AE15 IO (331), AE16 IO (368) (io), AE17 IO (378) (io), AF4 IO (249) (io), AF5 IO (261) (io), AF7 IO (268) (io), AF9 IO (294) (io), AF10 IO (305) (io), AF11 IO (297) (io), AF12 IO (315), AF13 VCCIO6 (power), AF16 IO (373) (io), AF17 IO (380) (io), AF21 VCCIO5 (power), R13 VCCIO6 (power), T9 IO (265) (io), T13 IO (302) (io), T14 IO (353) (io), T15 VCCIO5 (power), U11 VCCIO6 (power), U12 IO/LVDSDESKEW (313) (io), U13 IO (307) (io), U14 IO (346) (io), U15 IO (360) (io), V8 IO (262) (io), V10 VCCIO6 (power), V11 IO (288) (io), V12 IO (298) (io), V13 IO (310) (io), V14 IO (341) (io), V15 IO (348) (io), V16 IO (367) (io), V17 VCCIO5 (power), W9 IO (275) (io), W10 IO (277) (io), W11 IO (296) (io), W12 IO (300) (io), W13 IO (308) (io), W14 IO (303) (io), W15 IO (351) (io), W16 IO (358) (io), W17 IO (377) (io), W18 IO (381) (io), W20 IO (386) (io), Y3 IO (250) (io), Y4 IO (245) (io), Y7 IO (257) (io), Y8 IO (272) (io), Y9 IO (274) (io), Y10 IO (279) (io), Y11 IO (293) (io), Y12 IO (301) (io), Y15 IO (343) (io), Y16 IO (356) (io), Y17 IO (372) (io), Y18 IO (379) (io), Y19 IO (384) (io), Y20 IO (389) (io), Y23 IO (399) (io), Y24 IO (400) (io)
part D pins: AA1 IO/LVDSTX14n (186) (io), AA2 IO/LVDSTX14p (187) (io), AA5 IO (224) (io), AA6 IO (230) (io), AA7 IO (235) (io), AB1 IO/LVDSTX15p (189) (io), AB2 IO/LVDSTX15n (190) (io), AB5 IO (222) (io), AB6 IO (237) (io), AC1 IO/LVDSTX16n (192) (io), AC2 IO/LVDSTX16p (193) (io), AF6 VCCIO7 (power), C4 IO (46) (io), D1 IO/LVDSTXINCLK1p (137) (io), D2 IO/LVDSTXINCLK1n (138) (io), D5 IO (31) (io), E1 IO/LVDSTXOUTCLK1n (140) (io), E2 IO/LVDSTXOUTCLK1p (141) (io), E3 IO (13) (io), E4 IO (24) (io), E5 IO (11) (io), F1 IO/LVDSTX01p (144) (io), F2 IO/LVDSTX01n (145) (io), F3 IO (26) (io), F4 IO (20) (io), F5 IO (18) (io), G1 IO/LVDSTX02n (147) (io), G2 IO/LVDSTX02p (148) (io), G3 IO (37) (io), G4 IO (44) (io), G5 IO (33) (io), G6 IO (50) (io), G7 IO (55) (io), G8 IO (39) (io), H1 IO/LVDSTX03p (150) (io), H2 IO/LVDSTX03n (151) (io), H3 IO (64) (io), H4 IO (57) (io), H5 IO (52) (io), H6 IO (58) (io), H7 IO (56) (io), H9 IO (62) (io), J1 IO/LVDSTX04n (153) (io), J2 IO/LVDSTX04p (154) (io), J3 IO (74) (io), J4 IO (68) (io), J5 IO (61) (io), J6 IO (70) (io), J7 IO (72) (io), J8 IO (63) (io), K1 IO/LVDSTX05p (157) (io), K2 IO/LVDSTX05n (158) (io), K3 IO (65) (io), K4 IO (78) (io), K5 IO (69) (io), K6 IO (77) (io), K7 IO (59) (io), K8 IO (75) (io), K9 VCCIO8 (power), L1 IO/LVDSTX06n (160) (io), L2 IO/LVDSTX06p (161) (io), L3 IO (95) (io), L4 IO (94) (io), L5 IO (90) (io), L6 IO (71) (io), L7 IO (85) (io), L8 IO/DATA6 (76) (io), L9 IO (87) (io), M1 IO/LVDSTX07p (163) (io), M2 IO/LVDSTX07n (164) (io), M3 IO (100) (io), M4 IO (111) (io), M5 IO (98) (io), M6 IO (84) (io), M7 IO (88) (io), M8 IO (82) (io), M9 IO/nCS (102) (io), M10 IO/DATA7 (83) (io), M11 VCCIO8 (power), N3 VCCIO8 (power), N5 IO (81) (io), N8 CLK2p (123) (in), N9 IO/CLK2n (118) (io), N10 IO/nRS (96) (io), P4 IO (101) (io), P5 IO (104) (io), P8 IO (91) (io), P9 IO/nWS (89) (io), P12 VCCIO7 (power), R1 IO/LVDSTX08n (166) (io), R2 IO/LVDSTX08p (167) (io), R3 IO (103) (io), R4 IO (97) (io), R5 IO (146) (io), R6 CLK4p (117) (in), R7 IO/CLK4n (116) (io), R8 IO/DEV_OE (131) (io), R9 IO/DEV_CLRn (112) (io), T1 IO/LVDSTX09p (170) (io), T2 IO/LVDSTX09n (171) (io), T3 IO (165) (io), T4 IO (178) (io), T5 IO (152) (io), T6 IO/CS (110) (io), T7 CLKLK_OUT2p (134) (out), T8 IO/CLKLK_FB2n (114) (io), T10 VCCIO7 (power), U1 IO/LVDSTX10n (173) (io), U2 IO/LVDSTX10p (174) (io), U3 IO (196) (io), U4 IO (185) (io), U5 IO (172) (io), U6 IO/LOCK2 (139) (io), U7 IO/CLKLK_OUT2n (135) (io), U8 CLKLK_FB2p (115) (in), V1 IO/LVDSTX11p (176) (io), V2 IO/LVDSTX11n (177) (io), V3 IO (198) (io), V4 IO (211) (io), V5 IO (209) (io), W1 IO/LVDSTX12n (179) (io), W2 IO/LVDSTX12p (180) (io), W3 IO (215) (io), W4 IO (191) (io), W5 IO (202) (io), W6 IO (204) (io), W7 IO/LOCK4 (159) (io), Y1 IO/LVDSTX13p (183) (io), Y2 IO/LVDSTX13n (184) (io), Y5 IO (217) (io), Y6 IO (228) (io)
part E pins: AA12 CONF_DONE (318) (io), AA13 nSTATUS (319) (io), AA14 TCK (327) (in), AA15 TMS (328) (in), F13 FAST2 (722) (io), F14 TRST (714) (in), G13 TDO (723) (out), G14 nCEO (715) (in), H14 FAST1 (716) (io), N6 DATA0 (121) (in), N7 DCLK (122) (in), N20 MSEL1 (521) (in), N21 MSEL0 (522) (in), P6 nCE (124) (in), P7 TDI (125) (in), P16 CLKLK_ENA (519) (in), P21 nCONFIG (518) (in), Y13 FAST4 (320) (io), Y14 FAST3 (326) (io)
part F pins: A2 GND (power), A3 VCCINT (power), A8 GND (power), A14 GND (power), A19 GND (power), A24 VCCINT (power), A25 GND (power), AC3 VCCINT (power), AC4 GND (power), AC23 GND (power), AC24 VCCINT (power), AC25 GND_CKLK3 (607) (power), AC26 VCC_CKLK3 (604) (power), AD1 VCCINT (power), AD2 VCCINT (power), AD3 GND (power), AD13 GND (power), AD24 GND (power), AD25 VCCINT (power), AD26 VCCINT (power), AE1 GND (power), AE2 GND (power), AE3 VCCINT (power), AE6 GND (power), AE8 VCCINT (power), AE18 GND_CKLK1 (583/584) (power), AE19 VCCINT (power), AE21 GND (power), AE22 GND_CKOUT1 (601) (power), AE24 VCCINT (power), AE25 GND (power), AE26 GND (power), AF2 GND (power), AF3 VCCINT (power), AF8 GND (power), AF14 GND (power), AF15 GND, AF18 VCC_CKLK1 (582) (power), AF19 GND (power), AF22 VCC_CKOUT1 (600) (power), AF24 VCCINT (power), AF25 GND (power), B1 GND (power), B2 GND (power), B3 VCCINT (power), B6 GND (power), B8 VCCINT (power), B19 VCCINT (power), B21 GND (power), B24 VCCINT (power), B25 GND (power), B26 GND (power), C1 VCCINT (power), C2 VCCINT (power), C3 GND (power), C13 GND (power), C24 GND (power), C25 VCCINT (power), C26 VCCINT (power), D3 VCCINT (power), D4 GND (power), D23 GND (power), D24 VCCINT (power), H8 GND (power), H19 GND (power), J9 GND (power), J18 GND (power), K10 GND (power), K11 VCCINT (power), K17 GND (power), L10 VCCINT (power), L11 GND (power), L13 GND (power), L15 VCCINT (power), L16 GND (power), M12 GND (power), M13 VCCINT (power), M15 GND (power), M16 VCCINT (power), N1 GND (power), N2 VCCINT (power), N4 GND (power), N11 VCC_CKLK2 (132) (power), N12 VCCINT (power), N13 GND (power), N14 GND (power), N25 GND_CKLK3 (606) (power), N26 GND (power), P1 GND (power), P2 GND (power), P3 GND (power), P10 VCC_CKLK4 (109) (power), P11 GND_CKLK2 (128/129) (power), P13 GND (power), P14 GND (power), P15 VCCINT (power), P23 GND (power), P24 VCCINT (power), P25 VCCINT (power), P26 GND (power), R10 GND_CKLK4 (110/111) (power), R11 VCCINT (power), R12 GND (power), R14 VCCINT (power), R15 GND (power), T11 GND (power), T12 VCCINT (power), T16 GND (power), T17 VCCINT (power), U9 VCCINT (power), U10 GND (power), U16 VCCINT (power), U17 GND (power), V6 GND_CKOUT2 (135) (power), V7 VCC_CKOUT2 (134) (power), V9 GND (power), V18 GND (power), W8 GND (power), W19 GND (power)
part A text: BANK 1; BANK 2
part B text: BANK 3; BANK 4
part C text: BANK 5; BANK 6
part D text: BANK 7; BANK 8

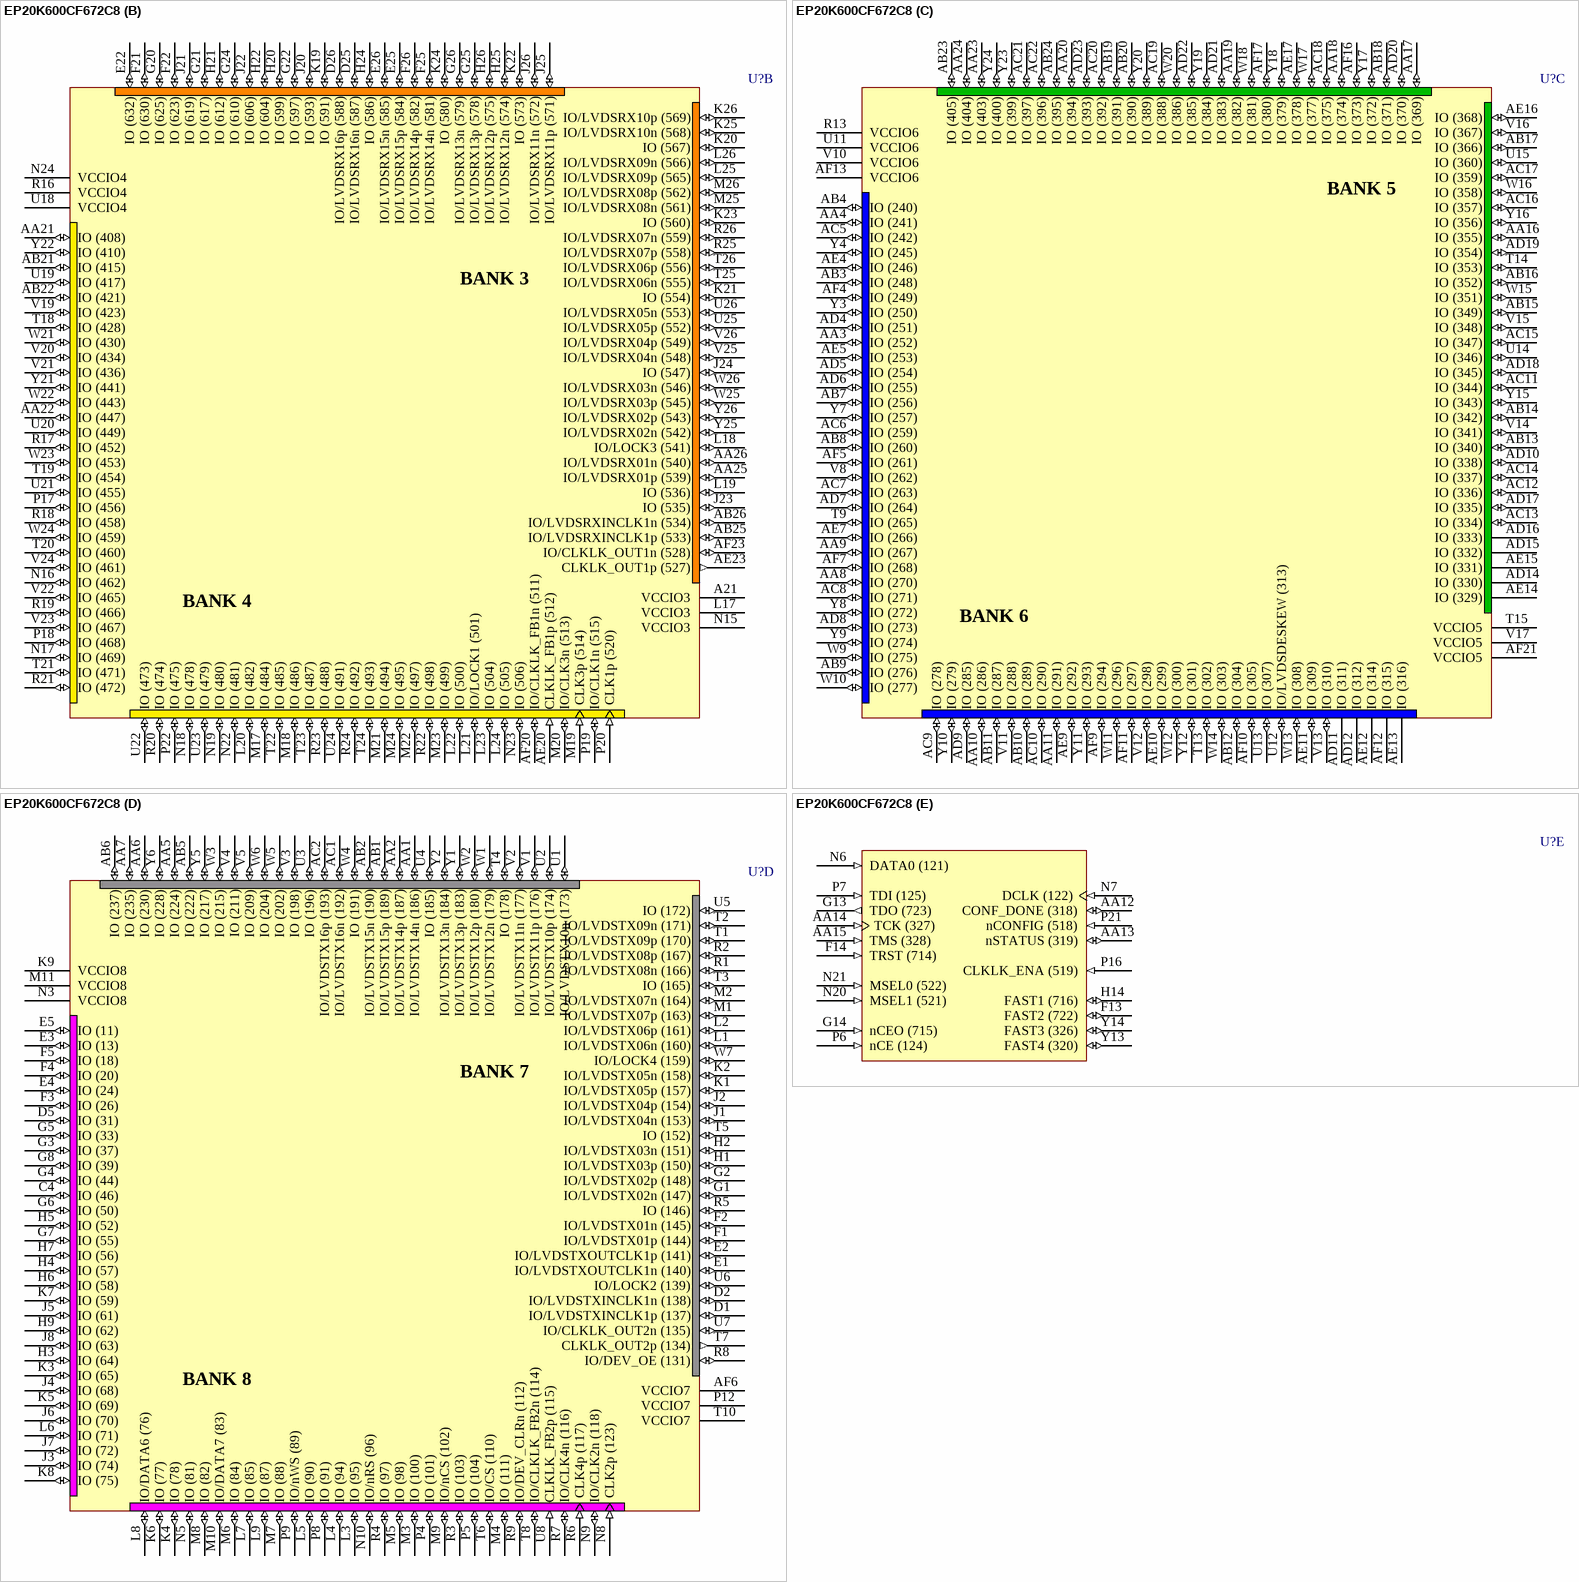
[diagram p64: symbol EP20K600CF672C8]

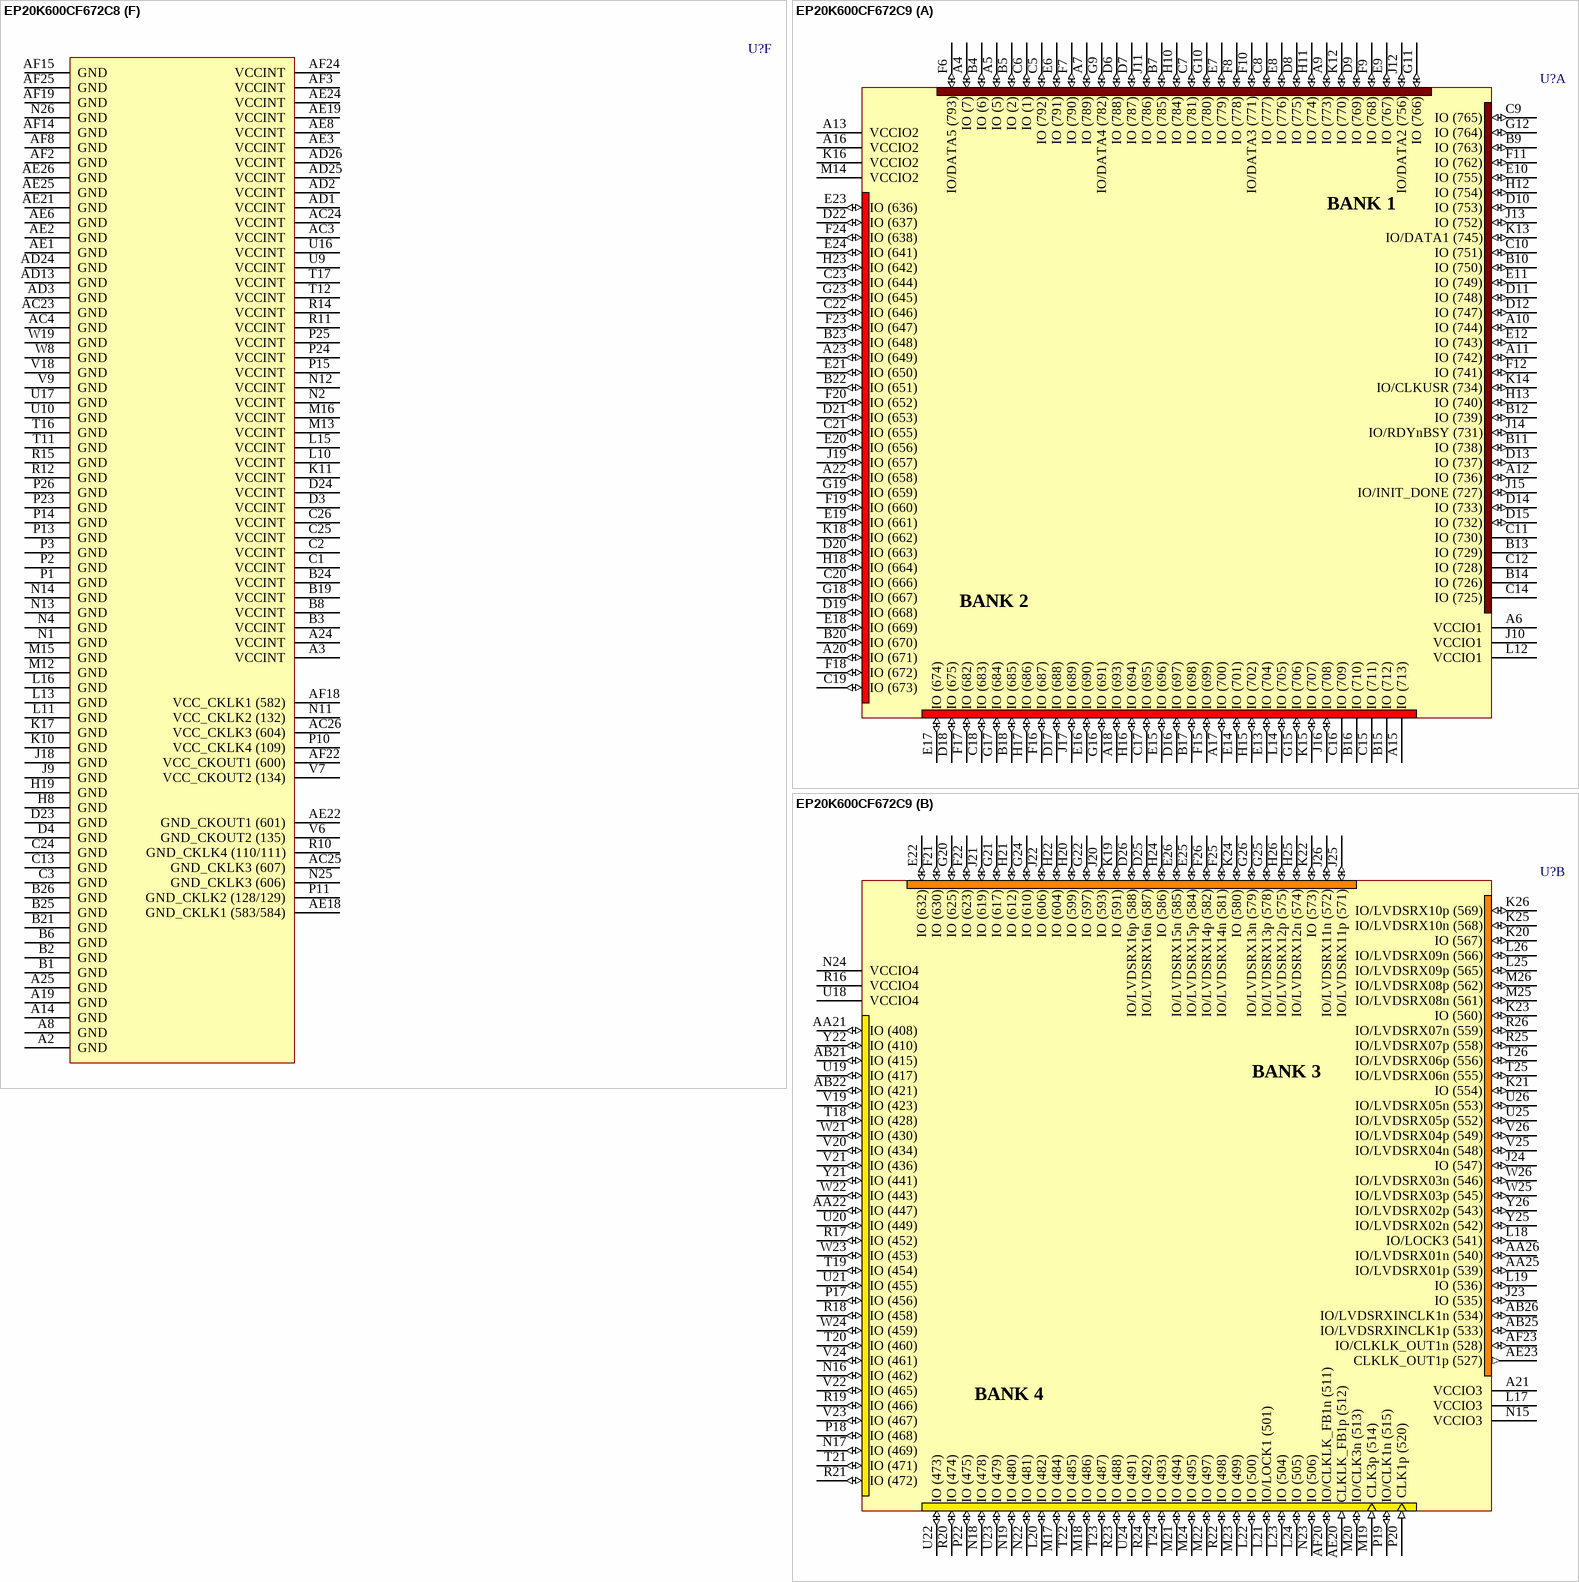
[diagram p65: symbols EP20K600CF672C8 to EP20K600CF672C9]

## EP20K600CF672C8
designator U?
APEX 20KC Family, 1.8V FPGA, 508 I/O Pins, 4 x PLLs, Commercial Grade, Speed Grade 8; Note: Pin compatible with Apex 20KE equivalent; Published: 23-Sep-2002; LatestRevisionDate: 13-Apr-2006; LatestRevisionNote: IPC-7351 Footprint Added.; DatasheetVersion: ver2.2, Feb-2004; PackageVersion: ver15.4, Dec-2008; PackageReference: FBGA672; Publisher: Altium Limited; PackageDescription: 672-Ball FineLine Ball Grid Array (FBGA672) - Flip Chip; Code_JEDEC: MS-034-AAL-1; ComponentLink1Description: Manufacturer Link; ComponentLink1URL: http://www.altera.com/products/devices/apex/apx-index.html; ComponentLink2Description: Datasheet; ComponentLink2URL: http://www.altera.com/literature/ds/ds_apex20kc.pdf
footprint FBGA672 (BGA, 672-Leads, Body 27x27mm, Pitch 1mm)
3D model EP20K600C-FBGA672T (672-Ball FineLine Ball Grid Array (FBGA672) - Flip Chip)
part A pins: A4 IO (7) (io), A5 IO (5) (io), A6 VCCIO1 (power), A7 IO (789) (io), A9 IO (773) (io), A10 IO (744) (io), A11 IO (742) (io), A12 IO (736) (io), A13 VCCIO2 (power), A15 IO (713), A16 VCCIO2, A17 IO (700) (io), A18 IO (693) (io), A20 IO (671) (io), A22 IO (658) (io), A23 IO (649) (io), B4 IO (6) (io), B5 IO (2) (io), B7 IO (785) (io), B9 IO (763) (io), B10 IO (750) (io), B11 IO (738) (io), B12 IO (739) (io), B13 IO (729), B14 IO (726), B15 IO (712), B16 IO (710), B17 IO (698) (io), B18 IO (685) (io), B20 IO (670) (io), B22 IO (651) (io), B23 IO (648) (io), C5 IO (792) (io), C6 IO (1) (io), C7 IO (781) (io), C8 IO (777) (io), C9 IO (765) (io), C10 IO (751) (io), C11 IO (730), C12 IO (728), C14 IO (725), C15 IO (711), C16 IO (709), C17 IO (695) (io), C18 IO (683) (io), C19 IO (673) (io), C20 IO (666) (io), C21 IO (655) (io), C22 IO (646) (io), C23 IO (644) (io), D6 IO (788) (io), D7 IO (787) (io), D8 IO (775) (io), D9 IO (769) (io), D10 IO (753) (io), D11 IO (748) (io), D12 IO (747) (io), D13 IO (737) (io), D14 IO (733) (io), D15 IO (732) (io), D16 IO (697) (io), D17 IO (688) (io), D18 IO (675) (io), D19 IO (668) (io), D20 IO (663) (io), D21 IO (653) (io), D22 IO (637) (io), E6 IO (791) (io), E7 IO (779) (io), E8 IO (776) (io), E9 IO (767) (io), E10 IO (755) (io), E11 IO (749) (io), E12 IO (743) (io), E13 IO (704) (io), E14 IO (701) (io), E15 IO (696) (io), E16 IO (690) (io), E17 IO (674) (io), E18 IO (669) (io), E19 IO (661) (io), E20 IO (656) (io), E21 IO (650) (io), E23 IO (636) (io), E24 IO (641) (io), F6 IO/DATA5 (793) (io), F7 IO (790) (io), F8 IO (778) (io), F9 IO (768) (io), F10 IO/DATA3 (771) (io), F11 IO (762) (io), F12 IO (741) (io), F15 IO (699) (io), F16 IO (687) (io), F17 IO (682) (io), F18 IO (672) (io), F19 IO (660) (io), F20 IO (652) (io), F23 IO (647) (io), F24 IO (638) (io), G9 IO/DATA4 (782) (io), G10 IO (780) (io), G11 IO (766) (io), G12 IO (764) (io), G15 IO (706) (io), G16 IO (691) (io), G17 IO (684) (io), G18 IO (667) (io), G19 IO (659) (io), G23 IO (645) (io), H10 IO (784) (io), H11 IO (774) (io), H12 IO (754) (io), H13 IO (740) (io), H15 IO (702) (io), H16 IO (694) (io), H17 IO (686) (io), H18 IO (664) (io), H23 IO (642) (io), J10 VCCIO1 (power), J11 IO (786) (io), J12 IO/DATA2 (756) (io), J13 IO (752) (io), J14 IO/RDYnBSY (731) (io), J15 IO/INIT_DONE (727) (io), J16 IO (708) (io), J17 IO (689) (io), J19 IO (657) (io), K12 IO (770) (io), K13 IO/DATA1 (745) (io), K14 IO/CLKUSR (734) (io), K15 IO (707) (io), K16 VCCIO2 (power), K18 IO (662) (io), L12 VCCIO1 (power), L14 IO (705) (io), M14 VCCIO2 (power)
part B pins: A21 VCCIO3 (power), AA21 IO (408) (io), AA22 IO (447) (io), AA25 IO/LVDSRX01p (539) (io), AA26 IO/LVDSRX01n (540) (io), AB21 IO (415) (io), AB22 IO (421) (io), AB25 IO/LVDSRXINCLK1p (533) (io), AB26 IO/LVDSRXINCLK1n (534) (io), AE20 CLKLK_FB1p (512) (in), AE23 CLKLK_OUT1p (527) (out), AF20 IO/CLKLK_FB1n (511) (io), AF23 IO/CLKLK_OUT1n (528) (io), D25 IO/LVDSRX16n (587) (io), D26 IO/LVDSRX16p (588) (io), E22 IO (632) (io), E25 IO/LVDSRX15p (584) (io), E26 IO/LVDSRX15n (585) (io), F21 IO (630) (io), F22 IO (623) (io), F25 IO/LVDSRX14n (581) (io), F26 IO/LVDSRX14p (582) (io), G20 IO (625) (io), G21 IO (617) (io), G22 IO (597) (io), G24 IO (610) (io), G25 IO/LVDSRX13p (578) (io), G26 IO/LVDSRX13n (579) (io), H20 IO (599) (io), H21 IO (612) (io), H22 IO (604) (io), H24 IO (586) (io), H25 IO/LVDSRX12n (574) (io), H26 IO/LVDSRX12p (575) (io), J20 IO (593) (io), J21 IO (619) (io), J22 IO (606) (io), J23 IO (535) (io), J24 IO (547) (io), J25 IO/LVDSRX11p (571) (io), J26 IO/LVDSRX11n (572) (io), K19 IO (591) (io), K20 IO (567) (io), K21 IO (554) (io), K22 IO (573) (io), K23 IO (560) (io), K24 IO (580) (io), K25 IO/LVDSRX10n (568) (io), K26 IO/LVDSRX10p (569) (io), L17 VCCIO3 (power), L18 IO/LOCK3 (541) (io), L19 IO (536) (io), L20 IO (482) (io), L21 IO/LOCK1 (501) (io), L22 IO (500) (io), L23 IO (504) (io), L24 IO (505) (io), L25 IO/LVDSRX09p (565) (io), L26 IO/LVDSRX09n (566) (io), M17 IO (484) (io), M18 IO (486) (io), M19 CLK3p (514) (in), M20 IO/CLK3n (513) (io), M21 IO (494) (io), M22 IO (497) (io), M23 IO (499) (io), M24 IO (495) (io), M25 IO/LVDSRX08n (561) (io), M26 IO/LVDSRX08p (562) (io), N15 VCCIO3 (power), N16 IO (462) (io), N17 IO (469) (io), N18 IO (478) (io), N19 IO (480) (io), N22 IO (481) (io), N23 IO (506) (io), N24 VCCIO4 (power), P17 IO (456) (io), P18 IO (468) (io), P19 IO/CLK1n (515) (io), P20 CLK1p (520) (in), P22 IO (475) (io), R16 VCCIO4 (power), R17 IO (452) (io), R18 IO (458) (io), R19 IO (466) (io), R20 IO (474) (io), R21 IO (472) (io), R22 IO (498) (io), R23 IO (488) (io), R24 IO (492) (io), R25 IO/LVDSRX07p (558) (io), R26 IO/LVDSRX07n (559) (io), T18 IO (428) (io), T19 IO (454) (io), T20 IO (460) (io), T21 IO (471) (io), T22 IO (485) (io), T23 IO (487) (io), T24 IO (493) (io), T25 IO/LVDSRX06n (555) (io), T26 IO/LVDSRX06p (556) (io), U18 VCCIO4 (power), U19 IO (417) (io), U20 IO (449) (io), U21 IO (455) (io), U22 IO (473) (io), U23 IO (479) (io), U24 IO (491) (io), U25 IO/LVDSRX05p (552) (io), U26 IO/LVDSRX05n (553) (io), V19 IO (423) (io), V20 IO (434) (io), V21 IO (436) (io), V22 IO (465) (io), V23 IO (467) (io), V24 IO (461) (io), V25 IO/LVDSRX04n (548) (io), V26 IO/LVDSRX04p (549) (io), W21 IO (430) (io), W22 IO (443) (io), W23 IO (453) (io), W24 IO (459) (io), W25 IO/LVDSRX03p (545) (io), W26 IO/LVDSRX03n (546) (io), Y21 IO (441) (io), Y22 IO (410) (io), Y25 IO/LVDSRX02n (542) (io), Y26 IO/LVDSRX02p (543) (io)
part C pins: AA3 IO (252) (io), AA4 IO (241) (io), AA8 IO (270) (io), AA9 IO (267) (io), AA10 IO (286) (io), AA11 IO (291) (io), AA16 IO (355) (io), AA17 IO (369) (io), AA18 IO (374) (io), AA19 IO (382) (io), AA20 IO (394) (io), AA23 IO (403) (io), AA24 IO (404) (io), AB3 IO (248) (io), AB4 IO (240) (io), AB7 IO (256) (io), AB8 IO (260) (io), AB9 IO (276) (io), AB10 IO (289) (io), AB11 IO (287) (io), AB12 IO (304) (io), AB13 IO (340) (io), AB14 IO (342) (io), AB15 IO (349) (io), AB16 IO (352) (io), AB17 IO (366) (io), AB18 IO (371) (io), AB19 IO (391) (io), AB20 IO (390) (io), AB23 IO (405) (io), AB24 IO (395) (io), AC5 IO (242) (io), AC6 IO (259) (io), AC7 IO (263) (io), AC8 IO (271) (io), AC9 IO (278) (io), AC10 IO (290) (io), AC11 IO (344) (io), AC12 IO (336) (io), AC13 IO (334) (io), AC14 IO (337) (io), AC15 IO (347) (io), AC16 IO (357) (io), AC17 IO (359) (io), AC18 IO (375) (io), AC19 IO (388) (io), AC20 IO (392) (io), AC21 IO (397) (io), AC22 IO (396) (io), AD4 IO (251) (io), AD5 IO (254) (io), AD6 IO (255) (io), AD7 IO (264) (io), AD8 IO (273) (io), AD9 IO (285) (io), AD10 IO (338) (io), AD11 IO (311), AD12 IO (312), AD14 IO (330), AD15 IO (332), AD16 IO (333), AD17 IO (335) (io), AD18 IO (345) (io), AD19 IO (354) (io), AD20 IO (370) (io), AD21 IO (383) (io), AD22 IO (385) (io), AD23 IO (393) (io), AE4 IO (246) (io), AE5 IO (253) (io), AE7 IO (266) (io), AE9 IO (292) (io), AE10 IO (299) (io), AE11 IO (309) (io), AE12 IO (314), AE13 IO (316), AE14 IO (329), AE15 IO (331), AE16 IO (368) (io), AE17 IO (378) (io), AF4 IO (249) (io), AF5 IO (261) (io), AF7 IO (268) (io), AF9 IO (294) (io), AF10 IO (305) (io), AF11 IO (297) (io), AF12 IO (315), AF13 VCCIO6 (power), AF16 IO (373) (io), AF17 IO (380) (io), AF21 VCCIO5 (power), R13 VCCIO6 (power), T9 IO (265) (io), T13 IO (302) (io), T14 IO (353) (io), T15 VCCIO5 (power), U11 VCCIO6 (power), U12 IO/LVDSDESKEW (313) (io), U13 IO (307) (io), U14 IO (346) (io), U15 IO (360) (io), V8 IO (262) (io), V10 VCCIO6 (power), V11 IO (288) (io), V12 IO (298) (io), V13 IO (310) (io), V14 IO (341) (io), V15 IO (348) (io), V16 IO (367) (io), V17 VCCIO5 (power), W9 IO (275) (io), W10 IO (277) (io), W11 IO (296) (io), W12 IO (300) (io), W13 IO (308) (io), W14 IO (303) (io), W15 IO (351) (io), W16 IO (358) (io), W17 IO (377) (io), W18 IO (381) (io), W20 IO (386) (io), Y3 IO (250) (io), Y4 IO (245) (io), Y7 IO (257) (io), Y8 IO (272) (io), Y9 IO (274) (io), Y10 IO (279) (io), Y11 IO (293) (io), Y12 IO (301) (io), Y15 IO (343) (io), Y16 IO (356) (io), Y17 IO (372) (io), Y18 IO (379) (io), Y19 IO (384) (io), Y20 IO (389) (io), Y23 IO (399) (io), Y24 IO (400) (io)
part D pins: AA1 IO/LVDSTX14n (186) (io), AA2 IO/LVDSTX14p (187) (io), AA5 IO (224) (io), AA6 IO (230) (io), AA7 IO (235) (io), AB1 IO/LVDSTX15p (189) (io), AB2 IO/LVDSTX15n (190) (io), AB5 IO (222) (io), AB6 IO (237) (io), AC1 IO/LVDSTX16n (192) (io), AC2 IO/LVDSTX16p (193) (io), AF6 VCCIO7 (power), C4 IO (46) (io), D1 IO/LVDSTXINCLK1p (137) (io), D2 IO/LVDSTXINCLK1n (138) (io), D5 IO (31) (io), E1 IO/LVDSTXOUTCLK1n (140) (io), E2 IO/LVDSTXOUTCLK1p (141) (io), E3 IO (13) (io), E4 IO (24) (io), E5 IO (11) (io), F1 IO/LVDSTX01p (144) (io), F2 IO/LVDSTX01n (145) (io), F3 IO (26) (io), F4 IO (20) (io), F5 IO (18) (io), G1 IO/LVDSTX02n (147) (io), G2 IO/LVDSTX02p (148) (io), G3 IO (37) (io), G4 IO (44) (io), G5 IO (33) (io), G6 IO (50) (io), G7 IO (55) (io), G8 IO (39) (io), H1 IO/LVDSTX03p (150) (io), H2 IO/LVDSTX03n (151) (io), H3 IO (64) (io), H4 IO (57) (io), H5 IO (52) (io), H6 IO (58) (io), H7 IO (56) (io), H9 IO (62) (io), J1 IO/LVDSTX04n (153) (io), J2 IO/LVDSTX04p (154) (io), J3 IO (74) (io), J4 IO (68) (io), J5 IO (61) (io), J6 IO (70) (io), J7 IO (72) (io), J8 IO (63) (io), K1 IO/LVDSTX05p (157) (io), K2 IO/LVDSTX05n (158) (io), K3 IO (65) (io), K4 IO (78) (io), K5 IO (69) (io), K6 IO (77) (io), K7 IO (59) (io), K8 IO (75) (io), K9 VCCIO8 (power), L1 IO/LVDSTX06n (160) (io), L2 IO/LVDSTX06p (161) (io), L3 IO (95) (io), L4 IO (94) (io), L5 IO (90) (io), L6 IO (71) (io), L7 IO (85) (io), L8 IO/DATA6 (76) (io), L9 IO (87) (io), M1 IO/LVDSTX07p (163) (io), M2 IO/LVDSTX07n (164) (io), M3 IO (100) (io), M4 IO (111) (io), M5 IO (98) (io), M6 IO (84) (io), M7 IO (88) (io), M8 IO (82) (io), M9 IO/nCS (102) (io), M10 IO/DATA7 (83) (io), M11 VCCIO8 (power), N3 VCCIO8 (power), N5 IO (81) (io), N8 CLK2p (123) (in), N9 IO/CLK2n (118) (io), N10 IO/nRS (96) (io), P4 IO (101) (io), P5 IO (104) (io), P8 IO (91) (io), P9 IO/nWS (89) (io), P12 VCCIO7 (power), R1 IO/LVDSTX08n (166) (io), R2 IO/LVDSTX08p (167) (io), R3 IO (103) (io), R4 IO (97) (io), R5 IO (146) (io), R6 CLK4p (117) (in), R7 IO/CLK4n (116) (io), R8 IO/DEV_OE (131) (io), R9 IO/DEV_CLRn (112) (io), T1 IO/LVDSTX09p (170) (io), T2 IO/LVDSTX09n (171) (io), T3 IO (165) (io), T4 IO (178) (io), T5 IO (152) (io), T6 IO/CS (110) (io), T7 CLKLK_OUT2p (134) (out), T8 IO/CLKLK_FB2n (114) (io), T10 VCCIO7 (power), U1 IO/LVDSTX10n (173) (io), U2 IO/LVDSTX10p (174) (io), U3 IO (196) (io), U4 IO (185) (io), U5 IO (172) (io), U6 IO/LOCK2 (139) (io), U7 IO/CLKLK_OUT2n (135) (io), U8 CLKLK_FB2p (115) (in), V1 IO/LVDSTX11p (176) (io), V2 IO/LVDSTX11n (177) (io), V3 IO (198) (io), V4 IO (211) (io), V5 IO (209) (io), W1 IO/LVDSTX12n (179) (io), W2 IO/LVDSTX12p (180) (io), W3 IO (215) (io), W4 IO (191) (io), W5 IO (202) (io), W6 IO (204) (io), W7 IO/LOCK4 (159) (io), Y1 IO/LVDSTX13p (183) (io), Y2 IO/LVDSTX13n (184) (io), Y5 IO (217) (io), Y6 IO (228) (io)
part E pins: AA12 CONF_DONE (318) (io), AA13 nSTATUS (319) (io), AA14 TCK (327) (in), AA15 TMS (328) (in), F13 FAST2 (722) (io), F14 TRST (714) (in), G13 TDO (723) (out), G14 nCEO (715) (in), H14 FAST1 (716) (io), N6 DATA0 (121) (in), N7 DCLK (122) (in), N20 MSEL1 (521) (in), N21 MSEL0 (522) (in), P6 nCE (124) (in), P7 TDI (125) (in), P16 CLKLK_ENA (519) (in), P21 nCONFIG (518) (in), Y13 FAST4 (320) (io), Y14 FAST3 (326) (io)
part F pins: A2 GND (power), A3 VCCINT (power), A8 GND (power), A14 GND (power), A19 GND (power), A24 VCCINT (power), A25 GND (power), AC3 VCCINT (power), AC4 GND (power), AC23 GND (power), AC24 VCCINT (power), AC25 GND_CKLK3 (607) (power), AC26 VCC_CKLK3 (604) (power), AD1 VCCINT (power), AD2 VCCINT (power), AD3 GND (power), AD13 GND (power), AD24 GND (power), AD25 VCCINT (power), AD26 VCCINT (power), AE1 GND (power), AE2 GND (power), AE3 VCCINT (power), AE6 GND (power), AE8 VCCINT (power), AE18 GND_CKLK1 (583/584) (power), AE19 VCCINT (power), AE21 GND (power), AE22 GND_CKOUT1 (601) (power), AE24 VCCINT (power), AE25 GND (power), AE26 GND (power), AF2 GND (power), AF3 VCCINT (power), AF8 GND (power), AF14 GND (power), AF15 GND, AF18 VCC_CKLK1 (582) (power), AF19 GND (power), AF22 VCC_CKOUT1 (600) (power), AF24 VCCINT (power), AF25 GND (power), B1 GND (power), B2 GND (power), B3 VCCINT (power), B6 GND (power), B8 VCCINT (power), B19 VCCINT (power), B21 GND (power), B24 VCCINT (power), B25 GND (power), B26 GND (power), C1 VCCINT (power), C2 VCCINT (power), C3 GND (power), C13 GND (power), C24 GND (power), C25 VCCINT (power), C26 VCCINT (power), D3 VCCINT (power), D4 GND (power), D23 GND (power), D24 VCCINT (power), H8 GND (power), H19 GND (power), J9 GND (power), J18 GND (power), K10 GND (power), K11 VCCINT (power), K17 GND (power), L10 VCCINT (power), L11 GND (power), L13 GND (power), L15 VCCINT (power), L16 GND (power), M12 GND (power), M13 VCCINT (power), M15 GND (power), M16 VCCINT (power), N1 GND (power), N2 VCCINT (power), N4 GND (power), N11 VCC_CKLK2 (132) (power), N12 VCCINT (power), N13 GND (power), N14 GND (power), N25 GND_CKLK3 (606) (power), N26 GND (power), P1 GND (power), P2 GND (power), P3 GND (power), P10 VCC_CKLK4 (109) (power), P11 GND_CKLK2 (128/129) (power), P13 GND (power), P14 GND (power), P15 VCCINT (power), P23 GND (power), P24 VCCINT (power), P25 VCCINT (power), P26 GND (power), R10 GND_CKLK4 (110/111) (power), R11 VCCINT (power), R12 GND (power), R14 VCCINT (power), R15 GND (power), T11 GND (power), T12 VCCINT (power), T16 GND (power), T17 VCCINT (power), U9 VCCINT (power), U10 GND (power), U16 VCCINT (power), U17 GND (power), V6 GND_CKOUT2 (135) (power), V7 VCC_CKOUT2 (134) (power), V9 GND (power), V18 GND (power), W8 GND (power), W19 GND (power)
part A text: BANK 1; BANK 2
part B text: BANK 3; BANK 4
part C text: BANK 5; BANK 6
part D text: BANK 7; BANK 8

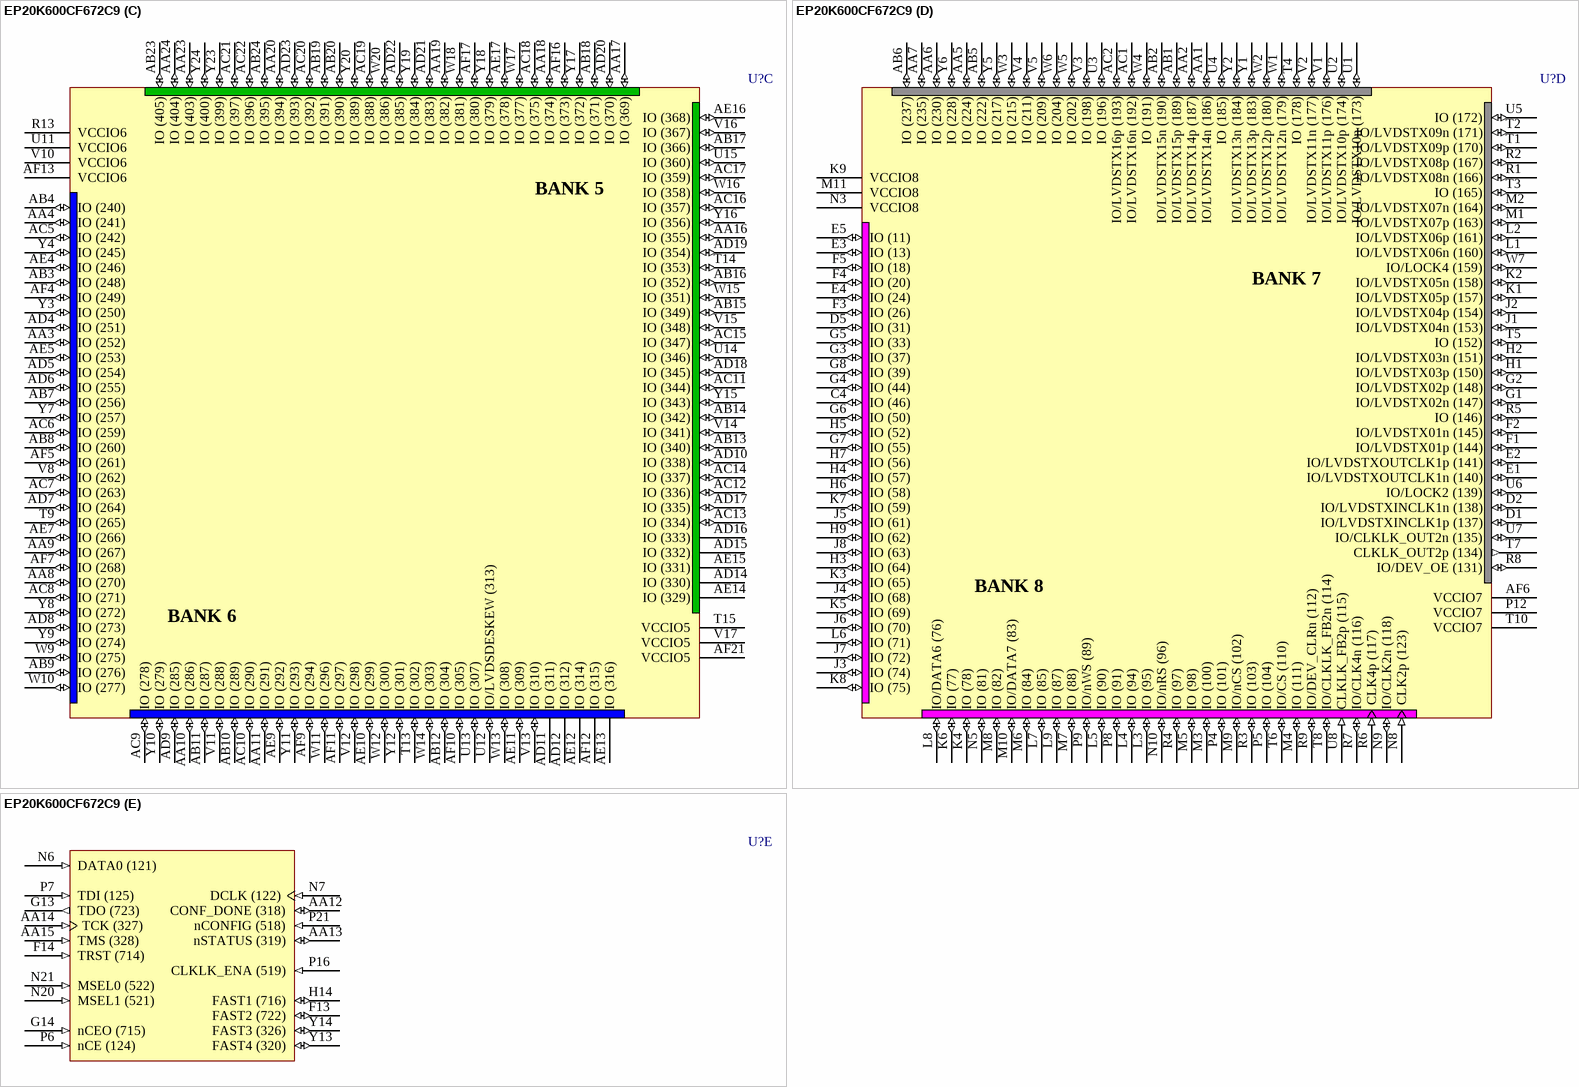
[diagram p66: symbol EP20K600CF672C9]

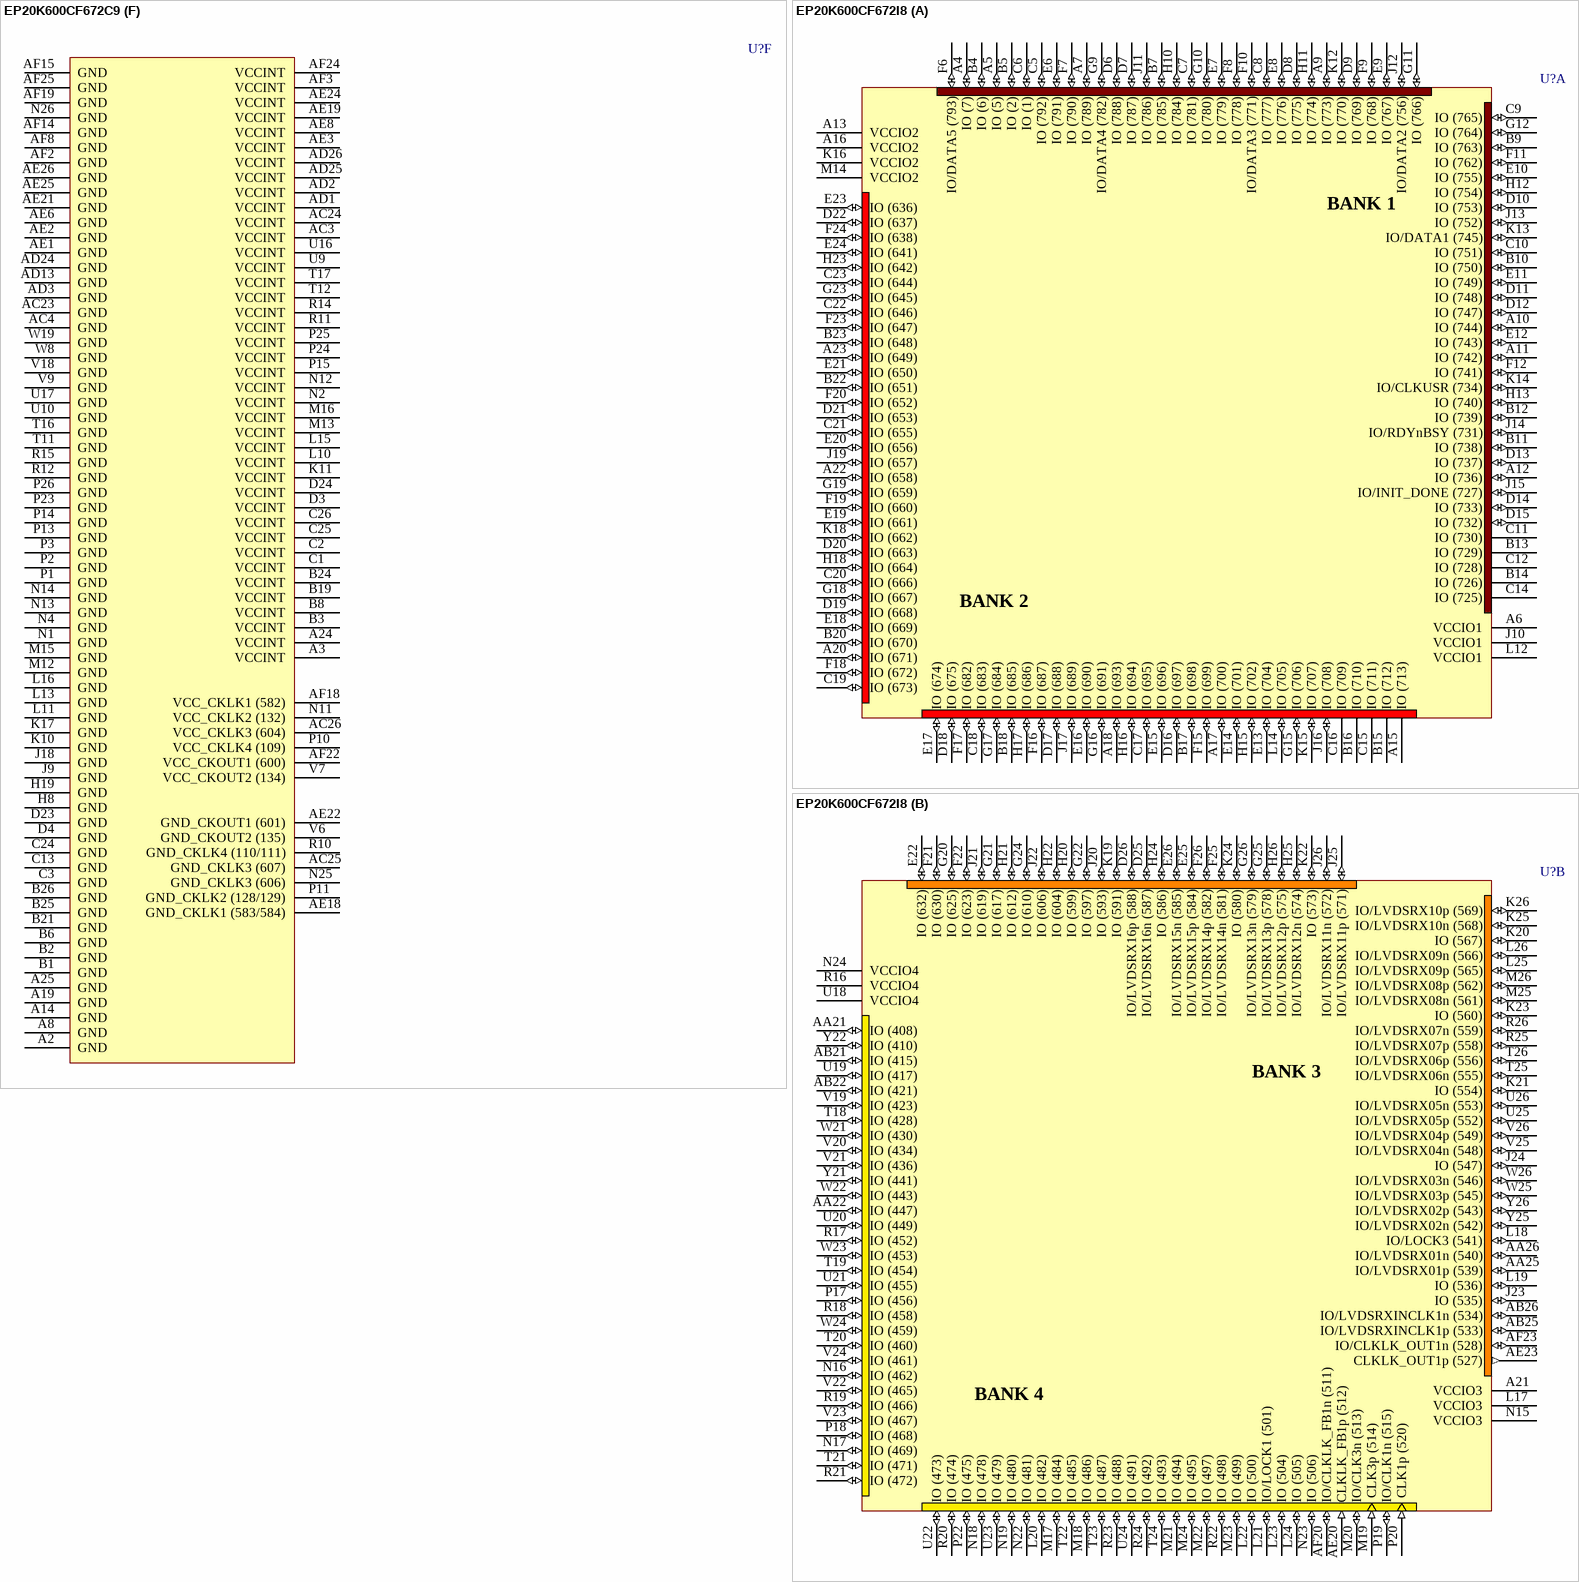
[diagram p67: symbols EP20K600CF672C9 to EP20K600CF672I8]